# Altium integrated library NXP Semiconductors Cortex-M3.IntLib: 68 symbols (part 1 of 8)
Pins are listed as number, name and electrical type; pins without a type are passive.

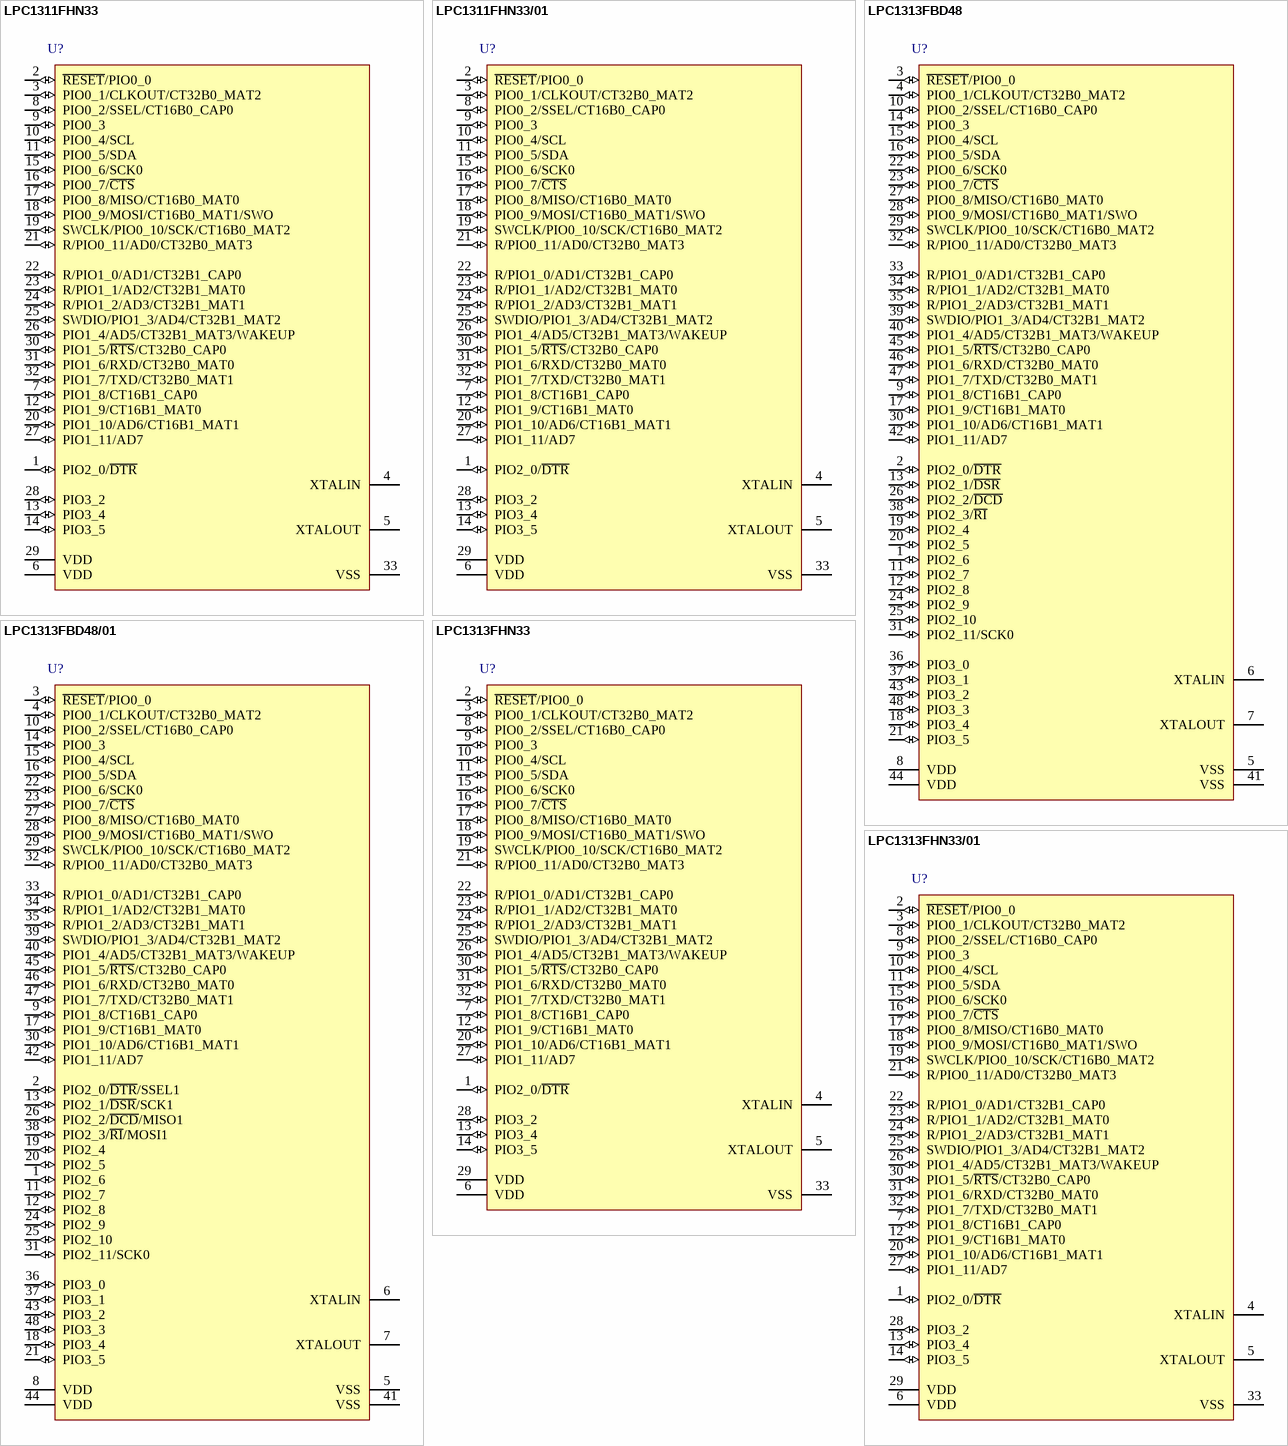
[diagram p0: symbols LPC1311FHN33 to LPC1313FHN33/01]

## LPC1311FHN33
designator U?
32-bit ARM Cortex-M3 MCU, 8 kB Flash, 4 kB SRAM, 72 MHz, 32-Pin HVQFN; fmax: 72 MHz; SRAM: 4 kB; Flash: 8 kB; GPIOs: 28; UART: 1; PLL: Y; ADC channels: 8; Timers: 4; VDD (min): 2 V; VDD (typ): 3.3 V; VDD (max): 3.6 V; DatasheetVersion: Rev. 4, Jun-2011; PackageVersion: Jun-2009; PackageReference: SOT865-3; PackageDescription: HVQFN32: Plastic Thermal Enhanced Very Thin Quad Flat Package; No Leads; 32 Terminals; Body 7 x 7 x 0.85 mm; I2C: 1; SPI: 1; SSP: 1; Code_JEDEC: MO-220; ComponentLink1Description: Manufacturer URL; ComponentLink1URL: http://www.nxp.com/; ComponentLink2Description: Datasheet; ComponentLink2URL: http://www.nxp.com/documents/data_sheet/LPC1311_13_42_43.pdf
footprint SOT865-3_V (QFN, 32-Leads, Body 7x7mm, Pitch 0.65mm, Thermal Pad 4.7x4.7mm, NXP Recommended)
footprint SOT865-3_N (QFN, 32-Leads, Body 7x7mm, Pitch 0.65mm, Thermal Pad 4.9x4.9mm, IPC Medium Density)
footprint SOT865-3_L (QFN, 32-Leads, Body 7x7mm, Pitch 0.65mm, Thermal Pad 4.9x4.9mm, IPC High Density)
footprint SOT865-3_M (QFN, 32-Leads, Body 7x7mm, Pitch 0.65mm, Thermal Pad 4.9x4.9mm, IPC Low Density)
pins: 1 PIO2_0/~{DTR} (io), 2 ~{RESET}/PIO0_0 (io), 3 PIO0_1/CLKOUT/CT32B0_MAT2 (io), 4 XTALIN, 5 XTALOUT, 6 VDD (power), 7 PIO1_8/CT16B1_CAP0 (io), 8 PIO0_2/SSEL/CT16B0_CAP0 (io), 9 PIO0_3 (io), 10 PIO0_4/SCL (io), 11 PIO0_5/SDA (io), 12 PIO1_9/CT16B1_MAT0 (io), 13 PIO3_4 (io), 14 PIO3_5 (io), 15 PIO0_6/SCK0 (io), 16 PIO0_7/~{CTS} (io), 17 PIO0_8/MISO/CT16B0_MAT0 (io), 18 PIO0_9/MOSI/CT16B0_MAT1/SWO (io), 19 SWCLK/PIO0_10/SCK/CT16B0_MAT2 (io), 20 PIO1_10/AD6/CT16B1_MAT1 (io), 21 R/PIO0_11/AD0/CT32B0_MAT3 (io), 22 R/PIO1_0/AD1/CT32B1_CAP0 (io), 23 R/PIO1_1/AD2/CT32B1_MAT0 (io), 24 R/PIO1_2/AD3/CT32B1_MAT1 (io), 25 SWDIO/PIO1_3/AD4/CT32B1_MAT2 (io), 26 PIO1_4/AD5/CT32B1_MAT3/WAKEUP (io), 27 PIO1_11/AD7 (io), 28 PIO3_2 (io), 29 VDD (power), 30 PIO1_5/~{RTS}/CT32B0_CAP0 (io), 31 PIO1_6/RXD/CT32B0_MAT0 (io), 32 PIO1_7/TXD/CT32B0_MAT1 (io), 33 VSS (power)

## LPC1311FHN33/01
designator U?
32-bit ARM Cortex-M3 MCU, 8 kB Flash, 4 kB SRAM, 72 MHz, Power profiles, 32-Pin HVQFN; fmax: 72 MHz; SRAM: 4 kB; Flash: 8 kB; GPIOs: 28; UART: 1; PLL: Y; ADC channels: 8; Timers: 4; VDD (min): 2 V; VDD (typ): 3.3 V; VDD (max): 3.6 V; DatasheetVersion: Rev. 4, Jun-2011; PackageVersion: Jun-2009; PackageReference: SOT865-3; PackageDescription: HVQFN32: Plastic Thermal Enhanced Very Thin Quad Flat Package; No Leads; 32 Terminals; Body 7 x 7 x 0.85 mm; I2C: 1; SPI: 1; SSP: 1; Code_JEDEC: MO-220; ComponentLink1Description: Manufacturer URL; ComponentLink1URL: http://www.nxp.com/; ComponentLink2Description: Datasheet; ComponentLink2URL: http://www.nxp.com/documents/data_sheet/LPC1311_13_42_43.pdf
footprint SOT865-3_V (QFN, 32-Leads, Body 7x7mm, Pitch 0.65mm, Thermal Pad 4.7x4.7mm, NXP Recommended)
footprint SOT865-3_N (QFN, 32-Leads, Body 7x7mm, Pitch 0.65mm, Thermal Pad 4.9x4.9mm, IPC Medium Density)
footprint SOT865-3_L (QFN, 32-Leads, Body 7x7mm, Pitch 0.65mm, Thermal Pad 4.9x4.9mm, IPC High Density)
footprint SOT865-3_M (QFN, 32-Leads, Body 7x7mm, Pitch 0.65mm, Thermal Pad 4.9x4.9mm, IPC Low Density)
pins: 1 PIO2_0/~{DTR} (io), 2 ~{RESET}/PIO0_0 (io), 3 PIO0_1/CLKOUT/CT32B0_MAT2 (io), 4 XTALIN, 5 XTALOUT, 6 VDD (power), 7 PIO1_8/CT16B1_CAP0 (io), 8 PIO0_2/SSEL/CT16B0_CAP0 (io), 9 PIO0_3 (io), 10 PIO0_4/SCL (io), 11 PIO0_5/SDA (io), 12 PIO1_9/CT16B1_MAT0 (io), 13 PIO3_4 (io), 14 PIO3_5 (io), 15 PIO0_6/SCK0 (io), 16 PIO0_7/~{CTS} (io), 17 PIO0_8/MISO/CT16B0_MAT0 (io), 18 PIO0_9/MOSI/CT16B0_MAT1/SWO (io), 19 SWCLK/PIO0_10/SCK/CT16B0_MAT2 (io), 20 PIO1_10/AD6/CT16B1_MAT1 (io), 21 R/PIO0_11/AD0/CT32B0_MAT3 (io), 22 R/PIO1_0/AD1/CT32B1_CAP0 (io), 23 R/PIO1_1/AD2/CT32B1_MAT0 (io), 24 R/PIO1_2/AD3/CT32B1_MAT1 (io), 25 SWDIO/PIO1_3/AD4/CT32B1_MAT2 (io), 26 PIO1_4/AD5/CT32B1_MAT3/WAKEUP (io), 27 PIO1_11/AD7 (io), 28 PIO3_2 (io), 29 VDD (power), 30 PIO1_5/~{RTS}/CT32B0_CAP0 (io), 31 PIO1_6/RXD/CT32B0_MAT0 (io), 32 PIO1_7/TXD/CT32B0_MAT1 (io), 33 VSS (power)

## LPC1313FBD48
designator U?
32-bit ARM Cortex-M3 MCU, 32 kB Flash, 8 kB SRAM, 72 MHz, 48-Pin LQFP; fmax: 72 MHz; SRAM: 8 kB; Flash: 32 kB; GPIOs: 42; UART: 1; PLL: Y; ADC channels: 8; Timers: 4; VDD (min): 2 V; VDD (typ): 3.3 V; VDD (max): 3.6 V; Code_IEC: 136E05; DatasheetVersion: Rev. 4, Jun-2011; PackageVersion: Feb-2003; PackageReference: SOT313-2; PackageDescription: LQFP48: Plastic Low Profile Quad Flat Package; 48 Leads; Body 7 x 7 x 1.4 mm; I2C: 1; SPI: 1; SSP: 1; Code_JEDEC: MS-026; ComponentLink1Description: Manufacturer URL; ComponentLink1URL: http://www.nxp.com/; ComponentLink2Description: Datasheet; ComponentLink2URL: http://www.nxp.com/documents/data_sheet/LPC1311_13_42_43.pdf
footprint SOT313-2_V (Thin QFP, 48-Leads, Body 7x7mm, Pitch 0.5mm, NXP Recommended)
footprint SOT313-2_N (Thin QFP, 48-Leads, Body 7x7mm, Pitch 0.5mm, IPC Medium Density)
footprint SOT313-2_L (Thin QFP, 48-Leads, Body 7x7mm, Pitch 0.5mm, IPC High Density)
footprint SOT313-2_M (Thin QFP, 48-Leads, Body 7x7mm, Pitch 0.5mm, IPC Low Density)
pins: 1 PIO2_6 (io), 2 PIO2_0/~{DTR} (io), 3 ~{RESET}/PIO0_0 (io), 4 PIO0_1/CLKOUT/CT32B0_MAT2 (io), 5 VSS (power), 6 XTALIN, 7 XTALOUT, 8 VDD (power), 9 PIO1_8/CT16B1_CAP0 (io), 10 PIO0_2/SSEL/CT16B0_CAP0 (io), 11 PIO2_7 (io), 12 PIO2_8 (io), 13 PIO2_1/~{DSR} (io), 14 PIO0_3 (io), 15 PIO0_4/SCL (io), 16 PIO0_5/SDA (io), 17 PIO1_9/CT16B1_MAT0 (io), 18 PIO3_4 (io), 19 PIO2_4 (io), 20 PIO2_5 (io), 21 PIO3_5 (io), 22 PIO0_6/SCK0 (io), 23 PIO0_7/~{CTS} (io), 24 PIO2_9 (io), 25 PIO2_10 (io), 26 PIO2_2/~{DCD} (io), 27 PIO0_8/MISO/CT16B0_MAT0 (io), 28 PIO0_9/MOSI/CT16B0_MAT1/SWO (io), 29 SWCLK/PIO0_10/SCK/CT16B0_MAT2 (io), 30 PIO1_10/AD6/CT16B1_MAT1 (io), 31 PIO2_11/SCK0 (io), 32 R/PIO0_11/AD0/CT32B0_MAT3 (io), 33 R/PIO1_0/AD1/CT32B1_CAP0 (io), 34 R/PIO1_1/AD2/CT32B1_MAT0 (io), 35 R/PIO1_2/AD3/CT32B1_MAT1 (io), 36 PIO3_0 (io), 37 PIO3_1 (io), 38 PIO2_3/~{RI} (io), 39 SWDIO/PIO1_3/AD4/CT32B1_MAT2 (io), 40 PIO1_4/AD5/CT32B1_MAT3/WAKEUP (io), 41 VSS (power), 42 PIO1_11/AD7 (io), 43 PIO3_2 (io), 44 VDD (power), 45 PIO1_5/~{RTS}/CT32B0_CAP0 (io), 46 PIO1_6/RXD/CT32B0_MAT0 (io), 47 PIO1_7/TXD/CT32B0_MAT1 (io), 48 PIO3_3 (io)

## LPC1313FBD48/01
designator U?
32-bit ARM Cortex-M3 MCU, 32 kB Flash, 8 kB SRAM, 72 MHz, Power profiles, 48-Pin LQFP; fmax: 72 MHz; SRAM: 8 kB; Flash: 32 kB; GPIOs: 42; UART: 1; SSP: 2; PLL: Y; ADC channels: 8; Timers: 4; VDD (min): 2 V; VDD (typ): 3.3 V; VDD (max): 3.6 V; Code_IEC: 136E05; DatasheetVersion: Rev. 4, Jun-2011; PackageVersion: Feb-2003; PackageReference: SOT313-2; PackageDescription: LQFP48: Plastic Low Profile Quad Flat Package; 48 Leads; Body 7 x 7 x 1.4 mm; I2C: 1; SPI: 1; Code_JEDEC: MS-026; ComponentLink1Description: Manufacturer URL; ComponentLink1URL: http://www.nxp.com/; ComponentLink2Description: Datasheet; ComponentLink2URL: http://www.nxp.com/documents/data_sheet/LPC1311_13_42_43.pdf
footprint SOT313-2_V (Thin QFP, 48-Leads, Body 7x7mm, Pitch 0.5mm, NXP Recommended)
footprint SOT313-2_N (Thin QFP, 48-Leads, Body 7x7mm, Pitch 0.5mm, IPC Medium Density)
footprint SOT313-2_L (Thin QFP, 48-Leads, Body 7x7mm, Pitch 0.5mm, IPC High Density)
footprint SOT313-2_M (Thin QFP, 48-Leads, Body 7x7mm, Pitch 0.5mm, IPC Low Density)
pins: 1 PIO2_6 (io), 2 PIO2_0/~{DTR}/SSEL1 (io), 3 ~{RESET}/PIO0_0 (io), 4 PIO0_1/CLKOUT/CT32B0_MAT2 (io), 5 VSS (power), 6 XTALIN, 7 XTALOUT, 8 VDD (power), 9 PIO1_8/CT16B1_CAP0 (io), 10 PIO0_2/SSEL/CT16B0_CAP0 (io), 11 PIO2_7 (io), 12 PIO2_8 (io), 13 PIO2_1/~{DSR}/SCK1 (io), 14 PIO0_3 (io), 15 PIO0_4/SCL (io), 16 PIO0_5/SDA (io), 17 PIO1_9/CT16B1_MAT0 (io), 18 PIO3_4 (io), 19 PIO2_4 (io), 20 PIO2_5 (io), 21 PIO3_5 (io), 22 PIO0_6/SCK0 (io), 23 PIO0_7/~{CTS} (io), 24 PIO2_9 (io), 25 PIO2_10 (io), 26 PIO2_2/~{DCD}/MISO1 (io), 27 PIO0_8/MISO/CT16B0_MAT0 (io), 28 PIO0_9/MOSI/CT16B0_MAT1/SWO (io), 29 SWCLK/PIO0_10/SCK/CT16B0_MAT2 (io), 30 PIO1_10/AD6/CT16B1_MAT1 (io), 31 PIO2_11/SCK0 (io), 32 R/PIO0_11/AD0/CT32B0_MAT3 (io), 33 R/PIO1_0/AD1/CT32B1_CAP0 (io), 34 R/PIO1_1/AD2/CT32B1_MAT0 (io), 35 R/PIO1_2/AD3/CT32B1_MAT1 (io), 36 PIO3_0 (io), 37 PIO3_1 (io), 38 PIO2_3/~{RI}/MOSI1 (io), 39 SWDIO/PIO1_3/AD4/CT32B1_MAT2 (io), 40 PIO1_4/AD5/CT32B1_MAT3/WAKEUP (io), 41 VSS (power), 42 PIO1_11/AD7 (io), 43 PIO3_2 (io), 44 VDD (power), 45 PIO1_5/~{RTS}/CT32B0_CAP0 (io), 46 PIO1_6/RXD/CT32B0_MAT0 (io), 47 PIO1_7/TXD/CT32B0_MAT1 (io), 48 PIO3_3 (io)

## LPC1313FHN33
designator U?
32-bit ARM Cortex-M3 MCU, 32 kB Flash, 8 kB SRAM, 72 MHz, 32-Pin HVQFN; fmax: 72 MHz; SRAM: 8 kB; Flash: 32 kB; GPIOs: 28; UART: 1; PLL: Y; ADC channels: 8; Timers: 4; VDD (min): 2 V; VDD (typ): 3.3 V; VDD (max): 3.6 V; DatasheetVersion: Rev. 4, Jun-2011; PackageVersion: Jun-2009; PackageReference: SOT865-3; PackageDescription: HVQFN32: Plastic Thermal Enhanced Very Thin Quad Flat Package; No Leads; 32 Terminals; Body 7 x 7 x 0.85 mm; I2C: 1; SPI: 1; SSP: 1; Code_JEDEC: MO-220; ComponentLink1Description: Manufacturer URL; ComponentLink1URL: http://www.nxp.com/; ComponentLink2Description: Datasheet; ComponentLink2URL: http://www.nxp.com/documents/data_sheet/LPC1311_13_42_43.pdf
footprint SOT865-3_V (QFN, 32-Leads, Body 7x7mm, Pitch 0.65mm, Thermal Pad 4.7x4.7mm, NXP Recommended)
footprint SOT865-3_N (QFN, 32-Leads, Body 7x7mm, Pitch 0.65mm, Thermal Pad 4.9x4.9mm, IPC Medium Density)
footprint SOT865-3_L (QFN, 32-Leads, Body 7x7mm, Pitch 0.65mm, Thermal Pad 4.9x4.9mm, IPC High Density)
footprint SOT865-3_M (QFN, 32-Leads, Body 7x7mm, Pitch 0.65mm, Thermal Pad 4.9x4.9mm, IPC Low Density)
pins: 1 PIO2_0/~{DTR} (io), 2 ~{RESET}/PIO0_0 (io), 3 PIO0_1/CLKOUT/CT32B0_MAT2 (io), 4 XTALIN, 5 XTALOUT, 6 VDD (power), 7 PIO1_8/CT16B1_CAP0 (io), 8 PIO0_2/SSEL/CT16B0_CAP0 (io), 9 PIO0_3 (io), 10 PIO0_4/SCL (io), 11 PIO0_5/SDA (io), 12 PIO1_9/CT16B1_MAT0 (io), 13 PIO3_4 (io), 14 PIO3_5 (io), 15 PIO0_6/SCK0 (io), 16 PIO0_7/~{CTS} (io), 17 PIO0_8/MISO/CT16B0_MAT0 (io), 18 PIO0_9/MOSI/CT16B0_MAT1/SWO (io), 19 SWCLK/PIO0_10/SCK/CT16B0_MAT2 (io), 20 PIO1_10/AD6/CT16B1_MAT1 (io), 21 R/PIO0_11/AD0/CT32B0_MAT3 (io), 22 R/PIO1_0/AD1/CT32B1_CAP0 (io), 23 R/PIO1_1/AD2/CT32B1_MAT0 (io), 24 R/PIO1_2/AD3/CT32B1_MAT1 (io), 25 SWDIO/PIO1_3/AD4/CT32B1_MAT2 (io), 26 PIO1_4/AD5/CT32B1_MAT3/WAKEUP (io), 27 PIO1_11/AD7 (io), 28 PIO3_2 (io), 29 VDD (power), 30 PIO1_5/~{RTS}/CT32B0_CAP0 (io), 31 PIO1_6/RXD/CT32B0_MAT0 (io), 32 PIO1_7/TXD/CT32B0_MAT1 (io), 33 VSS (power)

## LPC1313FHN33/01
designator U?
32-bit ARM Cortex-M3 MCU, 32 kB Flash, 8 kB SRAM, 72 MHz, 32-Pin HVQFN; fmax: 72 MHz; SRAM: 8 kB; Flash: 32 kB; GPIOs: 28; UART: 1; PLL: Y; ADC channels: 8; Timers: 4; VDD (min): 2 V; VDD (typ): 3.3 V; VDD (max): 3.6 V; DatasheetVersion: Rev. 4, Jun-2011; PackageVersion: Jun-2009; PackageReference: SOT865-3; PackageDescription: HVQFN32: Plastic Thermal Enhanced Very Thin Quad Flat Package; No Leads; 32 Terminals; Body 7 x 7 x 0.85 mm; I2C: 1; SPI: 1; SSP: 1; Code_JEDEC: MO-220; ComponentLink1Description: Manufacturer URL; ComponentLink1URL: http://www.nxp.com/; ComponentLink2Description: Datasheet; ComponentLink2URL: http://www.nxp.com/documents/data_sheet/LPC1311_13_42_43.pdf
footprint SOT865-3_V (QFN, 32-Leads, Body 7x7mm, Pitch 0.65mm, Thermal Pad 4.7x4.7mm, NXP Recommended)
footprint SOT865-3_N (QFN, 32-Leads, Body 7x7mm, Pitch 0.65mm, Thermal Pad 4.9x4.9mm, IPC Medium Density)
footprint SOT865-3_L (QFN, 32-Leads, Body 7x7mm, Pitch 0.65mm, Thermal Pad 4.9x4.9mm, IPC High Density)
footprint SOT865-3_M (QFN, 32-Leads, Body 7x7mm, Pitch 0.65mm, Thermal Pad 4.9x4.9mm, IPC Low Density)
pins: 1 PIO2_0/~{DTR} (io), 2 ~{RESET}/PIO0_0 (io), 3 PIO0_1/CLKOUT/CT32B0_MAT2 (io), 4 XTALIN, 5 XTALOUT, 6 VDD (power), 7 PIO1_8/CT16B1_CAP0 (io), 8 PIO0_2/SSEL/CT16B0_CAP0 (io), 9 PIO0_3 (io), 10 PIO0_4/SCL (io), 11 PIO0_5/SDA (io), 12 PIO1_9/CT16B1_MAT0 (io), 13 PIO3_4 (io), 14 PIO3_5 (io), 15 PIO0_6/SCK0 (io), 16 PIO0_7/~{CTS} (io), 17 PIO0_8/MISO/CT16B0_MAT0 (io), 18 PIO0_9/MOSI/CT16B0_MAT1/SWO (io), 19 SWCLK/PIO0_10/SCK/CT16B0_MAT2 (io), 20 PIO1_10/AD6/CT16B1_MAT1 (io), 21 R/PIO0_11/AD0/CT32B0_MAT3 (io), 22 R/PIO1_0/AD1/CT32B1_CAP0 (io), 23 R/PIO1_1/AD2/CT32B1_MAT0 (io), 24 R/PIO1_2/AD3/CT32B1_MAT1 (io), 25 SWDIO/PIO1_3/AD4/CT32B1_MAT2 (io), 26 PIO1_4/AD5/CT32B1_MAT3/WAKEUP (io), 27 PIO1_11/AD7 (io), 28 PIO3_2 (io), 29 VDD (power), 30 PIO1_5/~{RTS}/CT32B0_CAP0 (io), 31 PIO1_6/RXD/CT32B0_MAT0 (io), 32 PIO1_7/TXD/CT32B0_MAT1 (io), 33 VSS (power)

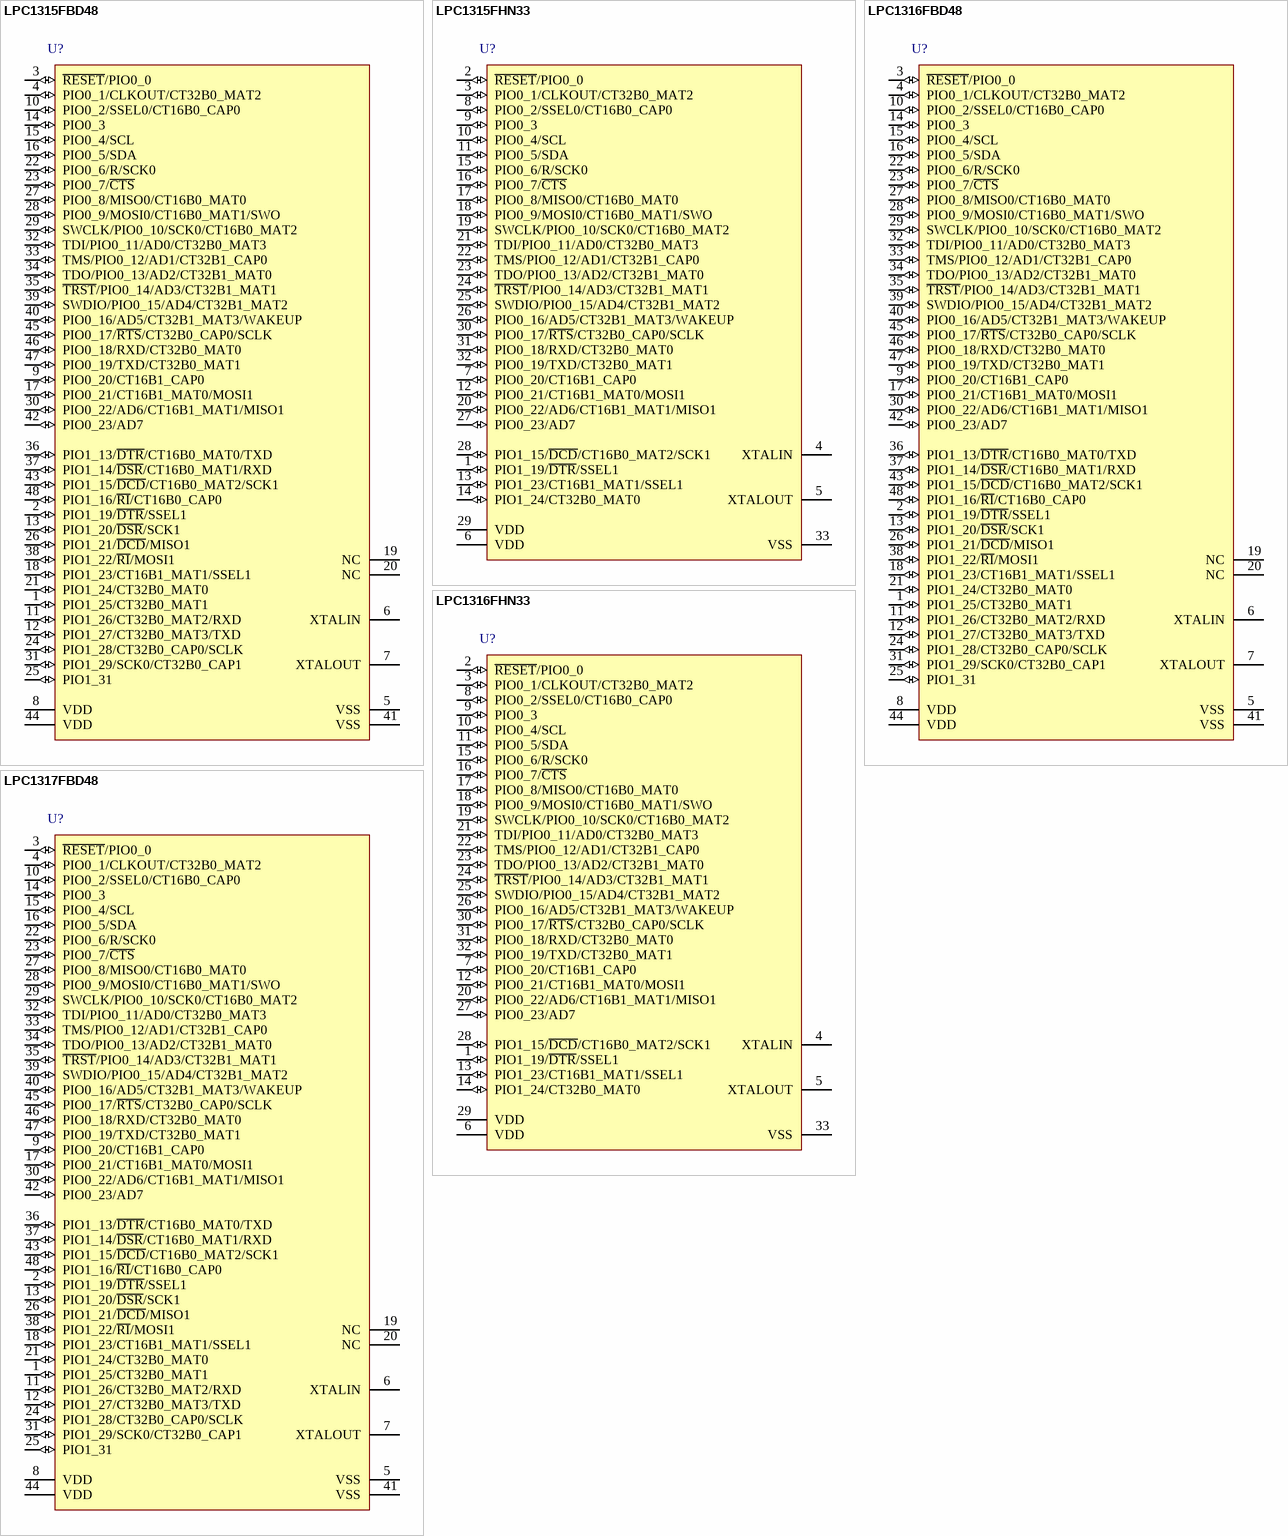
[diagram p1: symbols LPC1315FBD48 to LPC1317FBD48]

## LPC1315FBD48
designator U?
32-bit ARM Cortex-M3 MCU, 32 kB Flash, 8 kB SRAM, USART, EEPROM, 48-Pin LQFP; fmax: 72 MHz; SRAM: 8 kB; Flash: 32 kB; EEPROM: 2 kB; GPIOs: 40; UART: 1; SSP: 2; PLL: Y; ADC channels: 8; Timers: 4; VDD (min): 2 V; VDD (typ): 3.3 V; VDD (max): 3.6 V; Code_IEC: 136E05; DatasheetVersion: Rev. 1, Mar-2012; PackageVersion: Feb-2003; PackageReference: SOT313-2; PackageDescription: LQFP48: Plastic Low Profile Quad Flat Package; 48 Leads; Body 7 x 7 x 1.4 mm; I2C: 1; Code_JEDEC: MS-026; ComponentLink1Description: Manufacturer URL; ComponentLink1URL: http://www.nxp.com/; ComponentLink2Description: Datasheet; ComponentLink2URL: http://www.nxp.com/documents/data_sheet/LPC1315_16_17_45_46_47.pdf
footprint SOT313-2_V (Thin QFP, 48-Leads, Body 7x7mm, Pitch 0.5mm, NXP Recommended)
footprint SOT313-2_N (Thin QFP, 48-Leads, Body 7x7mm, Pitch 0.5mm, IPC Medium Density)
footprint SOT313-2_L (Thin QFP, 48-Leads, Body 7x7mm, Pitch 0.5mm, IPC High Density)
footprint SOT313-2_M (Thin QFP, 48-Leads, Body 7x7mm, Pitch 0.5mm, IPC Low Density)
pins: 1 PIO1_25/CT32B0_MAT1 (io), 2 PIO1_19/~{DTR}/SSEL1 (io), 3 ~{RESET}/PIO0_0 (io), 4 PIO0_1/CLKOUT/CT32B0_MAT2 (io), 5 VSS (power), 6 XTALIN, 7 XTALOUT, 8 VDD (power), 9 PIO0_20/CT16B1_CAP0 (io), 10 PIO0_2/SSEL0/CT16B0_CAP0 (io), 11 PIO1_26/CT32B0_MAT2/RXD (io), 12 PIO1_27/CT32B0_MAT3/TXD (io), 13 PIO1_20/~{DSR}/SCK1 (io), 14 PIO0_3 (io), 15 PIO0_4/SCL (io), 16 PIO0_5/SDA (io), 17 PIO0_21/CT16B1_MAT0/MOSI1 (io), 18 PIO1_23/CT16B1_MAT1/SSEL1 (io), 19 NC, 20 NC, 21 PIO1_24/CT32B0_MAT0 (io), 22 PIO0_6/R/SCK0 (io), 23 PIO0_7/~{CTS} (io), 24 PIO1_28/CT32B0_CAP0/SCLK (io), 25 PIO1_31 (io), 26 PIO1_21/~{DCD}/MISO1 (io), 27 PIO0_8/MISO0/CT16B0_MAT0 (io), 28 PIO0_9/MOSI0/CT16B0_MAT1/SWO (io), 29 SWCLK/PIO0_10/SCK0/CT16B0_MAT2 (io), 30 PIO0_22/AD6/CT16B1_MAT1/MISO1 (io), 31 PIO1_29/SCK0/CT32B0_CAP1 (io), 32 TDI/PIO0_11/AD0/CT32B0_MAT3 (io), 33 TMS/PIO0_12/AD1/CT32B1_CAP0 (io), 34 TDO/PIO0_13/AD2/CT32B1_MAT0 (io), 35 ~{TRST}/PIO0_14/AD3/CT32B1_MAT1 (io), 36 PIO1_13/~{DTR}/CT16B0_MAT0/TXD (io), 37 PIO1_14/~{DSR}/CT16B0_MAT1/RXD (io), 38 PIO1_22/~{RI}/MOSI1 (io), 39 SWDIO/PIO0_15/AD4/CT32B1_MAT2 (io), 40 PIO0_16/AD5/CT32B1_MAT3/WAKEUP (io), 41 VSS (power), 42 PIO0_23/AD7 (io), 43 PIO1_15/~{DCD}/CT16B0_MAT2/SCK1 (io), 44 VDD (power), 45 PIO0_17/~{RTS}/CT32B0_CAP0/SCLK (io), 46 PIO0_18/RXD/CT32B0_MAT0 (io), 47 PIO0_19/TXD/CT32B0_MAT1 (io), 48 PIO1_16/~{RI}/CT16B0_CAP0 (io)

## LPC1315FHN33
designator U?
32-bit ARM Cortex-M3 MCU, 32 kB Flash, 8 kB SRAM, USART, EEPROM, 32-Pin HVQFN; fmax: 72 MHz; SRAM: 8 kB; Flash: 32 kB; EEPROM: 2 kB; GPIOs: 28; UART: 1; SSP: 2; PLL: Y; ADC channels: 8; Timers: 4; VDD (min): 2 V; VDD (typ): 3.3 V; VDD (max): 3.6 V; DatasheetVersion: Rev. 1, Mar-2012; PackageVersion: Jun-2009; PackageReference: SOT865-3; PackageDescription: HVQFN32: Plastic Thermal Enhanced Very Thin Quad Flat Package; No Leads; 32 Terminals; Body 7 x 7 x 0.85 mm; I2C: 1; Code_JEDEC: MO-220; ComponentLink1Description: Manufacturer URL; ComponentLink1URL: http://www.nxp.com/; ComponentLink2Description: Datasheet; ComponentLink2URL: http://www.nxp.com/documents/data_sheet/LPC1315_16_17_45_46_47.pdf
footprint SOT865-3_V (QFN, 32-Leads, Body 7x7mm, Pitch 0.65mm, Thermal Pad 4.7x4.7mm, NXP Recommended)
footprint SOT865-3_N (QFN, 32-Leads, Body 7x7mm, Pitch 0.65mm, Thermal Pad 4.9x4.9mm, IPC Medium Density)
footprint SOT865-3_L (QFN, 32-Leads, Body 7x7mm, Pitch 0.65mm, Thermal Pad 4.9x4.9mm, IPC High Density)
footprint SOT865-3_M (QFN, 32-Leads, Body 7x7mm, Pitch 0.65mm, Thermal Pad 4.9x4.9mm, IPC Low Density)
pins: 1 PIO1_19/~{DTR}/SSEL1 (io), 2 ~{RESET}/PIO0_0 (io), 3 PIO0_1/CLKOUT/CT32B0_MAT2 (io), 4 XTALIN, 5 XTALOUT, 6 VDD (power), 7 PIO0_20/CT16B1_CAP0 (io), 8 PIO0_2/SSEL0/CT16B0_CAP0 (io), 9 PIO0_3 (io), 10 PIO0_4/SCL (io), 11 PIO0_5/SDA (io), 12 PIO0_21/CT16B1_MAT0/MOSI1 (io), 13 PIO1_23/CT16B1_MAT1/SSEL1 (io), 14 PIO1_24/CT32B0_MAT0 (io), 15 PIO0_6/R/SCK0 (io), 16 PIO0_7/~{CTS} (io), 17 PIO0_8/MISO0/CT16B0_MAT0 (io), 18 PIO0_9/MOSI0/CT16B0_MAT1/SWO (io), 19 SWCLK/PIO0_10/SCK0/CT16B0_MAT2 (io), 20 PIO0_22/AD6/CT16B1_MAT1/MISO1 (io), 21 TDI/PIO0_11/AD0/CT32B0_MAT3 (io), 22 TMS/PIO0_12/AD1/CT32B1_CAP0 (io), 23 TDO/PIO0_13/AD2/CT32B1_MAT0 (io), 24 ~{TRST}/PIO0_14/AD3/CT32B1_MAT1 (io), 25 SWDIO/PIO0_15/AD4/CT32B1_MAT2 (io), 26 PIO0_16/AD5/CT32B1_MAT3/WAKEUP (io), 27 PIO0_23/AD7 (io), 28 PIO1_15/~{DCD}/CT16B0_MAT2/SCK1 (io), 29 VDD (power), 30 PIO0_17/~{RTS}/CT32B0_CAP0/SCLK (io), 31 PIO0_18/RXD/CT32B0_MAT0 (io), 32 PIO0_19/TXD/CT32B0_MAT1 (io), 33 VSS (power)

## LPC1316FBD48
designator U?
32-bit ARM Cortex-M3 MCU, 48 kB Flash, 8 kB SRAM, USART, EEPROM, 48-Pin LQFP; fmax: 72 MHz; SRAM: 8 kB; Flash: 48 kB; EEPROM: 4 kB; GPIOs: 40; UART: 1; SSP: 2; PLL: Y; ADC channels: 8; Timers: 4; VDD (min): 2 V; VDD (typ): 3.3 V; VDD (max): 3.6 V; Code_IEC: 136E05; DatasheetVersion: Rev. 1, Mar-2012; PackageVersion: Feb-2003; PackageReference: SOT313-2; PackageDescription: LQFP48: Plastic Low Profile Quad Flat Package; 48 Leads; Body 7 x 7 x 1.4 mm; I2C: 1; Code_JEDEC: MS-026; ComponentLink1Description: Manufacturer URL; ComponentLink1URL: http://www.nxp.com/; ComponentLink2Description: Datasheet; ComponentLink2URL: http://www.nxp.com/documents/data_sheet/LPC1315_16_17_45_46_47.pdf
footprint SOT313-2_V (Thin QFP, 48-Leads, Body 7x7mm, Pitch 0.5mm, NXP Recommended)
footprint SOT313-2_N (Thin QFP, 48-Leads, Body 7x7mm, Pitch 0.5mm, IPC Medium Density)
footprint SOT313-2_L (Thin QFP, 48-Leads, Body 7x7mm, Pitch 0.5mm, IPC High Density)
footprint SOT313-2_M (Thin QFP, 48-Leads, Body 7x7mm, Pitch 0.5mm, IPC Low Density)
pins: 1 PIO1_25/CT32B0_MAT1 (io), 2 PIO1_19/~{DTR}/SSEL1 (io), 3 ~{RESET}/PIO0_0 (io), 4 PIO0_1/CLKOUT/CT32B0_MAT2 (io), 5 VSS (power), 6 XTALIN, 7 XTALOUT, 8 VDD (power), 9 PIO0_20/CT16B1_CAP0 (io), 10 PIO0_2/SSEL0/CT16B0_CAP0 (io), 11 PIO1_26/CT32B0_MAT2/RXD (io), 12 PIO1_27/CT32B0_MAT3/TXD (io), 13 PIO1_20/~{DSR}/SCK1 (io), 14 PIO0_3 (io), 15 PIO0_4/SCL (io), 16 PIO0_5/SDA (io), 17 PIO0_21/CT16B1_MAT0/MOSI1 (io), 18 PIO1_23/CT16B1_MAT1/SSEL1 (io), 19 NC, 20 NC, 21 PIO1_24/CT32B0_MAT0 (io), 22 PIO0_6/R/SCK0 (io), 23 PIO0_7/~{CTS} (io), 24 PIO1_28/CT32B0_CAP0/SCLK (io), 25 PIO1_31 (io), 26 PIO1_21/~{DCD}/MISO1 (io), 27 PIO0_8/MISO0/CT16B0_MAT0 (io), 28 PIO0_9/MOSI0/CT16B0_MAT1/SWO (io), 29 SWCLK/PIO0_10/SCK0/CT16B0_MAT2 (io), 30 PIO0_22/AD6/CT16B1_MAT1/MISO1 (io), 31 PIO1_29/SCK0/CT32B0_CAP1 (io), 32 TDI/PIO0_11/AD0/CT32B0_MAT3 (io), 33 TMS/PIO0_12/AD1/CT32B1_CAP0 (io), 34 TDO/PIO0_13/AD2/CT32B1_MAT0 (io), 35 ~{TRST}/PIO0_14/AD3/CT32B1_MAT1 (io), 36 PIO1_13/~{DTR}/CT16B0_MAT0/TXD (io), 37 PIO1_14/~{DSR}/CT16B0_MAT1/RXD (io), 38 PIO1_22/~{RI}/MOSI1 (io), 39 SWDIO/PIO0_15/AD4/CT32B1_MAT2 (io), 40 PIO0_16/AD5/CT32B1_MAT3/WAKEUP (io), 41 VSS (power), 42 PIO0_23/AD7 (io), 43 PIO1_15/~{DCD}/CT16B0_MAT2/SCK1 (io), 44 VDD (power), 45 PIO0_17/~{RTS}/CT32B0_CAP0/SCLK (io), 46 PIO0_18/RXD/CT32B0_MAT0 (io), 47 PIO0_19/TXD/CT32B0_MAT1 (io), 48 PIO1_16/~{RI}/CT16B0_CAP0 (io)

## LPC1316FHN33
designator U?
32-bit ARM Cortex-M3 MCU, 48 kB Flash, 8 kB SRAM, USART, EEPROM, 32-Pin HVQFN; fmax: 72 MHz; SRAM: 8 kB; Flash: 48 kB; EEPROM: 4 kB; GPIOs: 28; UART: 1; SSP: 2; PLL: Y; ADC channels: 8; Timers: 4; VDD (min): 2 V; VDD (typ): 3.3 V; VDD (max): 3.6 V; DatasheetVersion: Rev. 1, Mar-2012; PackageVersion: Jun-2009; PackageReference: SOT865-3; PackageDescription: HVQFN32: Plastic Thermal Enhanced Very Thin Quad Flat Package; No Leads; 32 Terminals; Body 7 x 7 x 0.85 mm; I2C: 1; Code_JEDEC: MO-220; ComponentLink1Description: Manufacturer URL; ComponentLink1URL: http://www.nxp.com/; ComponentLink2Description: Datasheet; ComponentLink2URL: http://www.nxp.com/documents/data_sheet/LPC1315_16_17_45_46_47.pdf
footprint SOT865-3_V (QFN, 32-Leads, Body 7x7mm, Pitch 0.65mm, Thermal Pad 4.7x4.7mm, NXP Recommended)
footprint SOT865-3_N (QFN, 32-Leads, Body 7x7mm, Pitch 0.65mm, Thermal Pad 4.9x4.9mm, IPC Medium Density)
footprint SOT865-3_L (QFN, 32-Leads, Body 7x7mm, Pitch 0.65mm, Thermal Pad 4.9x4.9mm, IPC High Density)
footprint SOT865-3_M (QFN, 32-Leads, Body 7x7mm, Pitch 0.65mm, Thermal Pad 4.9x4.9mm, IPC Low Density)
pins: 1 PIO1_19/~{DTR}/SSEL1 (io), 2 ~{RESET}/PIO0_0 (io), 3 PIO0_1/CLKOUT/CT32B0_MAT2 (io), 4 XTALIN, 5 XTALOUT, 6 VDD (power), 7 PIO0_20/CT16B1_CAP0 (io), 8 PIO0_2/SSEL0/CT16B0_CAP0 (io), 9 PIO0_3 (io), 10 PIO0_4/SCL (io), 11 PIO0_5/SDA (io), 12 PIO0_21/CT16B1_MAT0/MOSI1 (io), 13 PIO1_23/CT16B1_MAT1/SSEL1 (io), 14 PIO1_24/CT32B0_MAT0 (io), 15 PIO0_6/R/SCK0 (io), 16 PIO0_7/~{CTS} (io), 17 PIO0_8/MISO0/CT16B0_MAT0 (io), 18 PIO0_9/MOSI0/CT16B0_MAT1/SWO (io), 19 SWCLK/PIO0_10/SCK0/CT16B0_MAT2 (io), 20 PIO0_22/AD6/CT16B1_MAT1/MISO1 (io), 21 TDI/PIO0_11/AD0/CT32B0_MAT3 (io), 22 TMS/PIO0_12/AD1/CT32B1_CAP0 (io), 23 TDO/PIO0_13/AD2/CT32B1_MAT0 (io), 24 ~{TRST}/PIO0_14/AD3/CT32B1_MAT1 (io), 25 SWDIO/PIO0_15/AD4/CT32B1_MAT2 (io), 26 PIO0_16/AD5/CT32B1_MAT3/WAKEUP (io), 27 PIO0_23/AD7 (io), 28 PIO1_15/~{DCD}/CT16B0_MAT2/SCK1 (io), 29 VDD (power), 30 PIO0_17/~{RTS}/CT32B0_CAP0/SCLK (io), 31 PIO0_18/RXD/CT32B0_MAT0 (io), 32 PIO0_19/TXD/CT32B0_MAT1 (io), 33 VSS (power)

## LPC1317FBD48
designator U?
32-bit ARM Cortex-M3 MCU, 64 kB Flash, 10 kB SRAM, USART, EEPROM, 48-Pin LQFP; fmax: 72 MHz; SRAM: 10 kB; Flash: 64 kB; EEPROM: 4 kB; GPIOs: 40; UART: 1; SSP: 2; PLL: Y; ADC channels: 8; Timers: 4; VDD (min): 2 V; VDD (typ): 3.3 V; VDD (max): 3.6 V; Code_IEC: 136E05; DatasheetVersion: Rev. 1, Mar-2012; PackageVersion: Feb-2003; PackageReference: SOT313-2; PackageDescription: LQFP48: Plastic Low Profile Quad Flat Package; 48 Leads; Body 7 x 7 x 1.4 mm; I2C: 1; Code_JEDEC: MS-026; ComponentLink1Description: Manufacturer URL; ComponentLink1URL: http://www.nxp.com/; ComponentLink2Description: Datasheet; ComponentLink2URL: http://www.nxp.com/documents/data_sheet/LPC1315_16_17_45_46_47.pdf
footprint SOT313-2_V (Thin QFP, 48-Leads, Body 7x7mm, Pitch 0.5mm, NXP Recommended)
footprint SOT313-2_N (Thin QFP, 48-Leads, Body 7x7mm, Pitch 0.5mm, IPC Medium Density)
footprint SOT313-2_L (Thin QFP, 48-Leads, Body 7x7mm, Pitch 0.5mm, IPC High Density)
footprint SOT313-2_M (Thin QFP, 48-Leads, Body 7x7mm, Pitch 0.5mm, IPC Low Density)
pins: 1 PIO1_25/CT32B0_MAT1 (io), 2 PIO1_19/~{DTR}/SSEL1 (io), 3 ~{RESET}/PIO0_0 (io), 4 PIO0_1/CLKOUT/CT32B0_MAT2 (io), 5 VSS (power), 6 XTALIN, 7 XTALOUT, 8 VDD (power), 9 PIO0_20/CT16B1_CAP0 (io), 10 PIO0_2/SSEL0/CT16B0_CAP0 (io), 11 PIO1_26/CT32B0_MAT2/RXD (io), 12 PIO1_27/CT32B0_MAT3/TXD (io), 13 PIO1_20/~{DSR}/SCK1 (io), 14 PIO0_3 (io), 15 PIO0_4/SCL (io), 16 PIO0_5/SDA (io), 17 PIO0_21/CT16B1_MAT0/MOSI1 (io), 18 PIO1_23/CT16B1_MAT1/SSEL1 (io), 19 NC, 20 NC, 21 PIO1_24/CT32B0_MAT0 (io), 22 PIO0_6/R/SCK0 (io), 23 PIO0_7/~{CTS} (io), 24 PIO1_28/CT32B0_CAP0/SCLK (io), 25 PIO1_31 (io), 26 PIO1_21/~{DCD}/MISO1 (io), 27 PIO0_8/MISO0/CT16B0_MAT0 (io), 28 PIO0_9/MOSI0/CT16B0_MAT1/SWO (io), 29 SWCLK/PIO0_10/SCK0/CT16B0_MAT2 (io), 30 PIO0_22/AD6/CT16B1_MAT1/MISO1 (io), 31 PIO1_29/SCK0/CT32B0_CAP1 (io), 32 TDI/PIO0_11/AD0/CT32B0_MAT3 (io), 33 TMS/PIO0_12/AD1/CT32B1_CAP0 (io), 34 TDO/PIO0_13/AD2/CT32B1_MAT0 (io), 35 ~{TRST}/PIO0_14/AD3/CT32B1_MAT1 (io), 36 PIO1_13/~{DTR}/CT16B0_MAT0/TXD (io), 37 PIO1_14/~{DSR}/CT16B0_MAT1/RXD (io), 38 PIO1_22/~{RI}/MOSI1 (io), 39 SWDIO/PIO0_15/AD4/CT32B1_MAT2 (io), 40 PIO0_16/AD5/CT32B1_MAT3/WAKEUP (io), 41 VSS (power), 42 PIO0_23/AD7 (io), 43 PIO1_15/~{DCD}/CT16B0_MAT2/SCK1 (io), 44 VDD (power), 45 PIO0_17/~{RTS}/CT32B0_CAP0/SCLK (io), 46 PIO0_18/RXD/CT32B0_MAT0 (io), 47 PIO0_19/TXD/CT32B0_MAT1 (io), 48 PIO1_16/~{RI}/CT16B0_CAP0 (io)

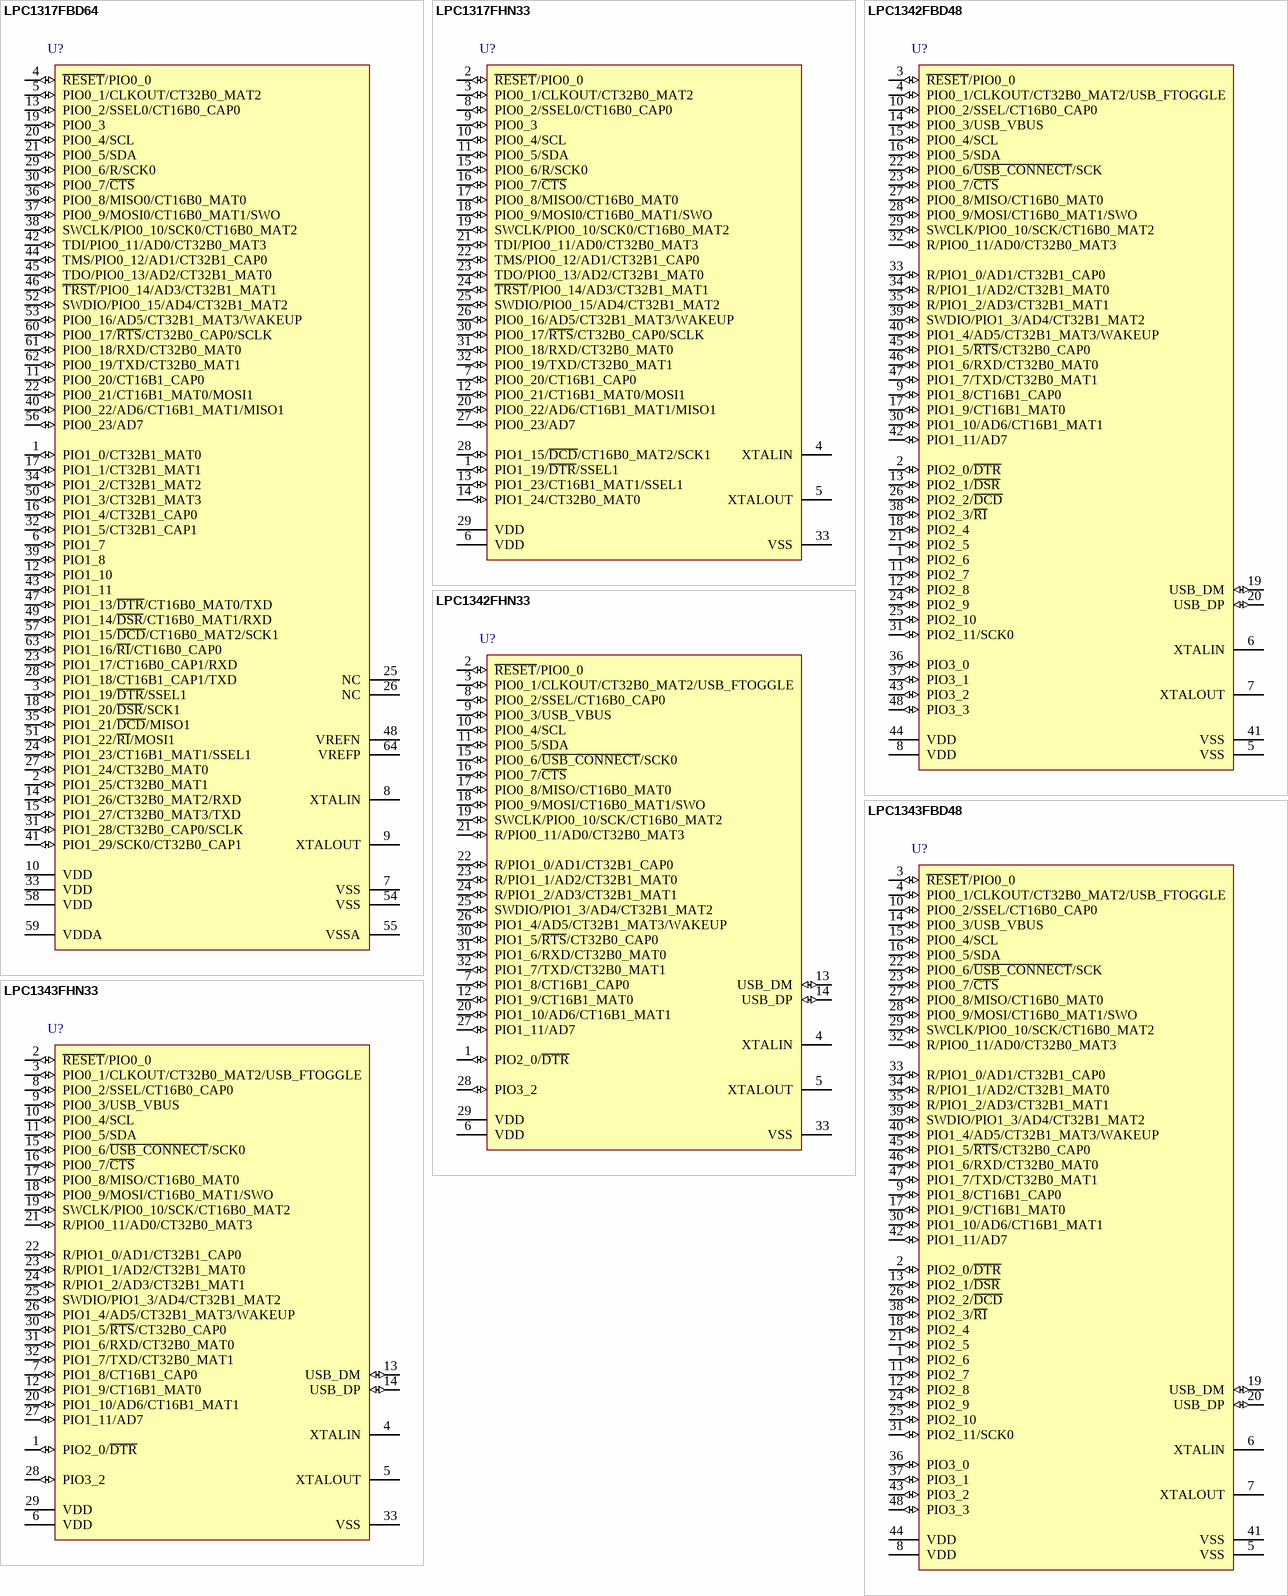
[diagram p2: symbols LPC1317FBD64 to LPC1343FHN33]

## LPC1317FBD64
designator U?
32-bit ARM Cortex-M3 MCU, 64 kB Flash, 10 kB SRAM, USART, EEPROM, 64-Pin LQFP; fmax: 72 MHz; SRAM: 10 kB; Flash: 64 kB; EEPROM: 4 kB; GPIOs: 51; UART: 1; SSP: 2; PLL: Y; ADC channels: 8; Timers: 4; VDD (min): 2 V; VDD (typ): 3.3 V; VDD (max): 3.6 V; Code_IEC: 136E10; DatasheetVersion: Rev. 1, Mar-2012; PackageVersion: Feb-2003; PackageReference: SOT314-2; PackageDescription: LQFP64: Plastic Low Profile Quad Flat Package; 64 Leads; Body 10 x 10 x 1.4 mm; I2C: 1; Code_JEDEC: MS-026; ComponentLink1Description: Manufacturer URL; ComponentLink1URL: http://www.nxp.com/; ComponentLink2Description: Datasheet; ComponentLink2URL: http://www.nxp.com/documents/data_sheet/LPC1315_16_17_45_46_47.pdf
footprint SOT314-2_V (Thin QFP, 64-Leads, Body 10x10mm, Pitch 0.5mm, NXP Recommended)
footprint SOT314-2_N (Thin QFP, 64-Leads, Body 10x10mm, Pitch 0.5mm, IPC Medium Density)
footprint SOT314-2_L (Thin QFP, 64-Leads, Body 10x10mm, Pitch 0.5mm, IPC High Density)
footprint SOT314-2_M (Thin QFP, 64-Leads, Body 10x10mm, Pitch 0.5mm, IPC Low Density)
pins: 1 PIO1_0/CT32B1_MAT0 (io), 2 PIO1_25/CT32B0_MAT1 (io), 3 PIO1_19/~{DTR}/SSEL1 (io), 4 ~{RESET}/PIO0_0 (io), 5 PIO0_1/CLKOUT/CT32B0_MAT2 (io), 6 PIO1_7 (io), 7 VSS (power), 8 XTALIN, 9 XTALOUT, 10 VDD (power), 11 PIO0_20/CT16B1_CAP0 (io), 12 PIO1_10 (io), 13 PIO0_2/SSEL0/CT16B0_CAP0 (io), 14 PIO1_26/CT32B0_MAT2/RXD (io), 15 PIO1_27/CT32B0_MAT3/TXD (io), 16 PIO1_4/CT32B1_CAP0 (io), 17 PIO1_1/CT32B1_MAT1 (io), 18 PIO1_20/~{DSR}/SCK1 (io), 19 PIO0_3 (io), 20 PIO0_4/SCL (io), 21 PIO0_5/SDA (io), 22 PIO0_21/CT16B1_MAT0/MOSI1 (io), 23 PIO1_17/CT16B0_CAP1/RXD (io), 24 PIO1_23/CT16B1_MAT1/SSEL1 (io), 25 NC, 26 NC, 27 PIO1_24/CT32B0_MAT0 (io), 28 PIO1_18/CT16B1_CAP1/TXD (io), 29 PIO0_6/R/SCK0 (io), 30 PIO0_7/~{CTS} (io), 31 PIO1_28/CT32B0_CAP0/SCLK (io), 32 PIO1_5/CT32B1_CAP1 (io), 33 VDD (power), 34 PIO1_2/CT32B1_MAT2 (io), 35 PIO1_21/~{DCD}/MISO1 (io), 36 PIO0_8/MISO0/CT16B0_MAT0 (io), 37 PIO0_9/MOSI0/CT16B0_MAT1/SWO (io), 38 SWCLK/PIO0_10/SCK0/CT16B0_MAT2 (io), 39 PIO1_8 (io), 40 PIO0_22/AD6/CT16B1_MAT1/MISO1 (io), 41 PIO1_29/SCK0/CT32B0_CAP1 (io), 42 TDI/PIO0_11/AD0/CT32B0_MAT3 (io), 43 PIO1_11 (io), 44 TMS/PIO0_12/AD1/CT32B1_CAP0 (io), 45 TDO/PIO0_13/AD2/CT32B1_MAT0 (io), 46 ~{TRST}/PIO0_14/AD3/CT32B1_MAT1 (io), 47 PIO1_13/~{DTR}/CT16B0_MAT0/TXD (io), 48 VREFN (power), 49 PIO1_14/~{DSR}/CT16B0_MAT1/RXD (io), 50 PIO1_3/CT32B1_MAT3 (io), 51 PIO1_22/~{RI}/MOSI1 (io), 52 SWDIO/PIO0_15/AD4/CT32B1_MAT2 (io), 53 PIO0_16/AD5/CT32B1_MAT3/WAKEUP (io), 54 VSS (power), 55 VSSA (power), 56 PIO0_23/AD7 (io), 57 PIO1_15/~{DCD}/CT16B0_MAT2/SCK1 (io), 58 VDD (power), 59 VDDA (power), 60 PIO0_17/~{RTS}/CT32B0_CAP0/SCLK (io), 61 PIO0_18/RXD/CT32B0_MAT0 (io), 62 PIO0_19/TXD/CT32B0_MAT1 (io), 63 PIO1_16/~{RI}/CT16B0_CAP0 (io), 64 VREFP (power)

## LPC1317FHN33
designator U?
32-bit ARM Cortex-M3 MCU, 64 kB Flash, 10 kB SRAM, USART, EEPROM, 32-Pin HVQFN; fmax: 72 MHz; SRAM: 10 kB; Flash: 64 kB; EEPROM: 4 kB; GPIOs: 28; UART: 1; SSP: 2; PLL: Y; ADC channels: 8; Timers: 4; VDD (min): 2 V; VDD (typ): 3.3 V; VDD (max): 3.6 V; DatasheetVersion: Rev. 1, Mar-2012; PackageVersion: Jun-2009; PackageReference: SOT865-3; PackageDescription: HVQFN32: Plastic Thermal Enhanced Very Thin Quad Flat Package; No Leads; 32 Terminals; Body 7 x 7 x 0.85 mm; I2C: 1; Code_JEDEC: MO-220; ComponentLink1Description: Manufacturer URL; ComponentLink1URL: http://www.nxp.com/; ComponentLink2Description: Datasheet; ComponentLink2URL: http://www.nxp.com/documents/data_sheet/LPC1315_16_17_45_46_47.pdf
footprint SOT865-3_V (QFN, 32-Leads, Body 7x7mm, Pitch 0.65mm, Thermal Pad 4.7x4.7mm, NXP Recommended)
footprint SOT865-3_N (QFN, 32-Leads, Body 7x7mm, Pitch 0.65mm, Thermal Pad 4.9x4.9mm, IPC Medium Density)
footprint SOT865-3_L (QFN, 32-Leads, Body 7x7mm, Pitch 0.65mm, Thermal Pad 4.9x4.9mm, IPC High Density)
footprint SOT865-3_M (QFN, 32-Leads, Body 7x7mm, Pitch 0.65mm, Thermal Pad 4.9x4.9mm, IPC Low Density)
pins: 1 PIO1_19/~{DTR}/SSEL1 (io), 2 ~{RESET}/PIO0_0 (io), 3 PIO0_1/CLKOUT/CT32B0_MAT2 (io), 4 XTALIN, 5 XTALOUT, 6 VDD (power), 7 PIO0_20/CT16B1_CAP0 (io), 8 PIO0_2/SSEL0/CT16B0_CAP0 (io), 9 PIO0_3 (io), 10 PIO0_4/SCL (io), 11 PIO0_5/SDA (io), 12 PIO0_21/CT16B1_MAT0/MOSI1 (io), 13 PIO1_23/CT16B1_MAT1/SSEL1 (io), 14 PIO1_24/CT32B0_MAT0 (io), 15 PIO0_6/R/SCK0 (io), 16 PIO0_7/~{CTS} (io), 17 PIO0_8/MISO0/CT16B0_MAT0 (io), 18 PIO0_9/MOSI0/CT16B0_MAT1/SWO (io), 19 SWCLK/PIO0_10/SCK0/CT16B0_MAT2 (io), 20 PIO0_22/AD6/CT16B1_MAT1/MISO1 (io), 21 TDI/PIO0_11/AD0/CT32B0_MAT3 (io), 22 TMS/PIO0_12/AD1/CT32B1_CAP0 (io), 23 TDO/PIO0_13/AD2/CT32B1_MAT0 (io), 24 ~{TRST}/PIO0_14/AD3/CT32B1_MAT1 (io), 25 SWDIO/PIO0_15/AD4/CT32B1_MAT2 (io), 26 PIO0_16/AD5/CT32B1_MAT3/WAKEUP (io), 27 PIO0_23/AD7 (io), 28 PIO1_15/~{DCD}/CT16B0_MAT2/SCK1 (io), 29 VDD (power), 30 PIO0_17/~{RTS}/CT32B0_CAP0/SCLK (io), 31 PIO0_18/RXD/CT32B0_MAT0 (io), 32 PIO0_19/TXD/CT32B0_MAT1 (io), 33 VSS (power)

## LPC1342FBD48
designator U?
32-bit ARM Cortex-M3 MCU, 16 kB Flash, 4 kB SRAM, 72 MHz performance, USB Device, 48-Pin LQFP; fmax: 72 MHz; SRAM: 4 kB; Flash: 16 kB; GPIOs: 42; USB: 1; PLL: Y; ADC channels: 8; Timers: 4; VDD (min): 2 V; VDD (typ): 3.3 V; VDD (max): 3.6 V; Code_IEC: 136E05; DatasheetVersion: Rev. 4, Jun-2011; PackageVersion: Feb-2003; PackageReference: SOT313-2; PackageDescription: LQFP48: Plastic Low Profile Quad Flat Package; 48 Leads; Body 7 x 7 x 1.4 mm; UART: 1; I2C: 1; SPI: 1; SSP: 1; Code_JEDEC: MS-026; ComponentLink1Description: Manufacturer URL; ComponentLink1URL: http://www.nxp.com/; ComponentLink2Description: Datasheet; ComponentLink2URL: http://www.nxp.com/documents/data_sheet/LPC1311_13_42_43.pdf
footprint SOT313-2_V (Thin QFP, 48-Leads, Body 7x7mm, Pitch 0.5mm, NXP Recommended)
footprint SOT313-2_N (Thin QFP, 48-Leads, Body 7x7mm, Pitch 0.5mm, IPC Medium Density)
footprint SOT313-2_L (Thin QFP, 48-Leads, Body 7x7mm, Pitch 0.5mm, IPC High Density)
footprint SOT313-2_M (Thin QFP, 48-Leads, Body 7x7mm, Pitch 0.5mm, IPC Low Density)
pins: 1 PIO2_6 (io), 2 PIO2_0/~{DTR} (io), 3 ~{RESET}/PIO0_0 (io), 4 PIO0_1/CLKOUT/CT32B0_MAT2/USB_FTOGGLE (io), 5 VSS (power), 6 XTALIN, 7 XTALOUT, 8 VDD (power), 9 PIO1_8/CT16B1_CAP0 (io), 10 PIO0_2/SSEL/CT16B0_CAP0 (io), 11 PIO2_7 (io), 12 PIO2_8 (io), 13 PIO2_1/~{DSR} (io), 14 PIO0_3/USB_VBUS (io), 15 PIO0_4/SCL (io), 16 PIO0_5/SDA (io), 17 PIO1_9/CT16B1_MAT0 (io), 18 PIO2_4 (io), 19 USB_DM (io), 20 USB_DP (io), 21 PIO2_5 (io), 22 PIO0_6/~{USB_CONNECT}/SCK (io), 23 PIO0_7/~{CTS} (io), 24 PIO2_9 (io), 25 PIO2_10 (io), 26 PIO2_2/~{DCD} (io), 27 PIO0_8/MISO/CT16B0_MAT0 (io), 28 PIO0_9/MOSI/CT16B0_MAT1/SWO (io), 29 SWCLK/PIO0_10/SCK/CT16B0_MAT2 (io), 30 PIO1_10/AD6/CT16B1_MAT1 (io), 31 PIO2_11/SCK0 (io), 32 R/PIO0_11/AD0/CT32B0_MAT3 (io), 33 R/PIO1_0/AD1/CT32B1_CAP0 (io), 34 R/PIO1_1/AD2/CT32B1_MAT0 (io), 35 R/PIO1_2/AD3/CT32B1_MAT1 (io), 36 PIO3_0 (io), 37 PIO3_1 (io), 38 PIO2_3/~{RI} (io), 39 SWDIO/PIO1_3/AD4/CT32B1_MAT2 (io), 40 PIO1_4/AD5/CT32B1_MAT3/WAKEUP (io), 41 VSS (power), 42 PIO1_11/AD7 (io), 43 PIO3_2 (io), 44 VDD (power), 45 PIO1_5/~{RTS}/CT32B0_CAP0 (io), 46 PIO1_6/RXD/CT32B0_MAT0 (io), 47 PIO1_7/TXD/CT32B0_MAT1 (io), 48 PIO3_3 (io)

## LPC1342FHN33
designator U?
32-bit ARM Cortex-M3 MCU, 16 kB Flash, 4 kB SRAM, 72 MHz, USB device, 32-Pin HVQFN; fmax: 72 MHz; SRAM: 4 kB; Flash: 16 kB; GPIOs: 26; USB: 1; PLL: Y; ADC channels: 8; Timers: 4; VDD (min): 2 V; VDD (typ): 3.3 V; VDD (max): 3.6 V; DatasheetVersion: Rev. 4, Jun-2011; PackageVersion: Jun-2009; PackageReference: SOT865-3; PackageDescription: HVQFN32: Plastic Thermal Enhanced Very Thin Quad Flat Package; No Leads; 32 Terminals; Body 7 x 7 x 0.85 mm; UART: 1; I2C: 1; SPI: 1; SSP: 1; Code_JEDEC: MO-220; ComponentLink1Description: Manufacturer URL; ComponentLink1URL: http://www.nxp.com/; ComponentLink2Description: Datasheet; ComponentLink2URL: http://www.nxp.com/documents/data_sheet/LPC1311_13_42_43.pdf
footprint SOT865-3_V (QFN, 32-Leads, Body 7x7mm, Pitch 0.65mm, Thermal Pad 4.7x4.7mm, NXP Recommended)
footprint SOT865-3_N (QFN, 32-Leads, Body 7x7mm, Pitch 0.65mm, Thermal Pad 4.9x4.9mm, IPC Medium Density)
footprint SOT865-3_L (QFN, 32-Leads, Body 7x7mm, Pitch 0.65mm, Thermal Pad 4.9x4.9mm, IPC High Density)
footprint SOT865-3_M (QFN, 32-Leads, Body 7x7mm, Pitch 0.65mm, Thermal Pad 4.9x4.9mm, IPC Low Density)
pins: 1 PIO2_0/~{DTR} (io), 2 ~{RESET}/PIO0_0 (io), 3 PIO0_1/CLKOUT/CT32B0_MAT2/USB_FTOGGLE (io), 4 XTALIN, 5 XTALOUT, 6 VDD (power), 7 PIO1_8/CT16B1_CAP0 (io), 8 PIO0_2/SSEL/CT16B0_CAP0 (io), 9 PIO0_3/USB_VBUS (io), 10 PIO0_4/SCL (io), 11 PIO0_5/SDA (io), 12 PIO1_9/CT16B1_MAT0 (io), 13 USB_DM (io), 14 USB_DP (io), 15 PIO0_6/~{USB_CONNECT}/SCK0 (io), 16 PIO0_7/~{CTS} (io), 17 PIO0_8/MISO/CT16B0_MAT0 (io), 18 PIO0_9/MOSI/CT16B0_MAT1/SWO (io), 19 SWCLK/PIO0_10/SCK/CT16B0_MAT2 (io), 20 PIO1_10/AD6/CT16B1_MAT1 (io), 21 R/PIO0_11/AD0/CT32B0_MAT3 (io), 22 R/PIO1_0/AD1/CT32B1_CAP0 (io), 23 R/PIO1_1/AD2/CT32B1_MAT0 (io), 24 R/PIO1_2/AD3/CT32B1_MAT1 (io), 25 SWDIO/PIO1_3/AD4/CT32B1_MAT2 (io), 26 PIO1_4/AD5/CT32B1_MAT3/WAKEUP (io), 27 PIO1_11/AD7 (io), 28 PIO3_2 (io), 29 VDD (power), 30 PIO1_5/~{RTS}/CT32B0_CAP0 (io), 31 PIO1_6/RXD/CT32B0_MAT0 (io), 32 PIO1_7/TXD/CT32B0_MAT1 (io), 33 VSS (power)

## LPC1343FBD48
designator U?
32-bit ARM Cortex-M3 MCU, 32 kB Flash, 8 kB SRAM, 72 MHz, USB device, 48-Pin LQFP; fmax: 72 MHz; SRAM: 8 kB; Flash: 32 kB; GPIOs: 40; USB: 1; PLL: Y; ADC channels: 8; Timers: 4; VDD (min): 2 V; VDD (typ): 3.3 V; VDD (max): 3.6 V; Code_IEC: 136E05; DatasheetVersion: Rev. 4, Jun-2011; PackageVersion: Feb-2003; PackageReference: SOT313-2; PackageDescription: LQFP48: Plastic Low Profile Quad Flat Package; 48 Leads; Body 7 x 7 x 1.4 mm; UART: 1; I2C: 1; SPI: 1; SSP: 1; Code_JEDEC: MS-026; ComponentLink1Description: Manufacturer URL; ComponentLink1URL: http://www.nxp.com/; ComponentLink2Description: Datasheet; ComponentLink2URL: http://www.nxp.com/documents/data_sheet/LPC1311_13_42_43.pdf
footprint SOT313-2_V (Thin QFP, 48-Leads, Body 7x7mm, Pitch 0.5mm, NXP Recommended)
footprint SOT313-2_N (Thin QFP, 48-Leads, Body 7x7mm, Pitch 0.5mm, IPC Medium Density)
footprint SOT313-2_L (Thin QFP, 48-Leads, Body 7x7mm, Pitch 0.5mm, IPC High Density)
footprint SOT313-2_M (Thin QFP, 48-Leads, Body 7x7mm, Pitch 0.5mm, IPC Low Density)
pins: 1 PIO2_6 (io), 2 PIO2_0/~{DTR} (io), 3 ~{RESET}/PIO0_0 (io), 4 PIO0_1/CLKOUT/CT32B0_MAT2/USB_FTOGGLE (io), 5 VSS (power), 6 XTALIN, 7 XTALOUT, 8 VDD (power), 9 PIO1_8/CT16B1_CAP0 (io), 10 PIO0_2/SSEL/CT16B0_CAP0 (io), 11 PIO2_7 (io), 12 PIO2_8 (io), 13 PIO2_1/~{DSR} (io), 14 PIO0_3/USB_VBUS (io), 15 PIO0_4/SCL (io), 16 PIO0_5/SDA (io), 17 PIO1_9/CT16B1_MAT0 (io), 18 PIO2_4 (io), 19 USB_DM (io), 20 USB_DP (io), 21 PIO2_5 (io), 22 PIO0_6/~{USB_CONNECT}/SCK (io), 23 PIO0_7/~{CTS} (io), 24 PIO2_9 (io), 25 PIO2_10 (io), 26 PIO2_2/~{DCD} (io), 27 PIO0_8/MISO/CT16B0_MAT0 (io), 28 PIO0_9/MOSI/CT16B0_MAT1/SWO (io), 29 SWCLK/PIO0_10/SCK/CT16B0_MAT2 (io), 30 PIO1_10/AD6/CT16B1_MAT1 (io), 31 PIO2_11/SCK0 (io), 32 R/PIO0_11/AD0/CT32B0_MAT3 (io), 33 R/PIO1_0/AD1/CT32B1_CAP0 (io), 34 R/PIO1_1/AD2/CT32B1_MAT0 (io), 35 R/PIO1_2/AD3/CT32B1_MAT1 (io), 36 PIO3_0 (io), 37 PIO3_1 (io), 38 PIO2_3/~{RI} (io), 39 SWDIO/PIO1_3/AD4/CT32B1_MAT2 (io), 40 PIO1_4/AD5/CT32B1_MAT3/WAKEUP (io), 41 VSS (power), 42 PIO1_11/AD7 (io), 43 PIO3_2 (io), 44 VDD (power), 45 PIO1_5/~{RTS}/CT32B0_CAP0 (io), 46 PIO1_6/RXD/CT32B0_MAT0 (io), 47 PIO1_7/TXD/CT32B0_MAT1 (io), 48 PIO3_3 (io)

## LPC1343FHN33
designator U?
32-bit ARM Cortex-M3 MCU, 32 kB Flash, 8 kB SRAM, 72 MHz, USB device, 32-Pin HVQFN; fmax: 72 MHz; SRAM: 8 kB; Flash: 32 kB; GPIOs: 26; USB: 1; PLL: Y; ADC channels: 8; Timers: 4; VDD (min): 2 V; VDD (typ): 3.3 V; VDD (max): 3.6 V; DatasheetVersion: Rev. 4, Jun-2011; PackageVersion: Jun-2009; PackageReference: SOT865-3; PackageDescription: HVQFN32: Plastic Thermal Enhanced Very Thin Quad Flat Package; No Leads; 32 Terminals; Body 7 x 7 x 0.85 mm; UART: 1; I2C: 1; SPI: 1; SSP: 1; Code_JEDEC: MO-220; ComponentLink1Description: Manufacturer URL; ComponentLink1URL: http://www.nxp.com/; ComponentLink2Description: Datasheet; ComponentLink2URL: http://www.nxp.com/documents/data_sheet/LPC1311_13_42_43.pdf
footprint SOT865-3_V (QFN, 32-Leads, Body 7x7mm, Pitch 0.65mm, Thermal Pad 4.7x4.7mm, NXP Recommended)
footprint SOT865-3_N (QFN, 32-Leads, Body 7x7mm, Pitch 0.65mm, Thermal Pad 4.9x4.9mm, IPC Medium Density)
footprint SOT865-3_L (QFN, 32-Leads, Body 7x7mm, Pitch 0.65mm, Thermal Pad 4.9x4.9mm, IPC High Density)
footprint SOT865-3_M (QFN, 32-Leads, Body 7x7mm, Pitch 0.65mm, Thermal Pad 4.9x4.9mm, IPC Low Density)
pins: 1 PIO2_0/~{DTR} (io), 2 ~{RESET}/PIO0_0 (io), 3 PIO0_1/CLKOUT/CT32B0_MAT2/USB_FTOGGLE (io), 4 XTALIN, 5 XTALOUT, 6 VDD (power), 7 PIO1_8/CT16B1_CAP0 (io), 8 PIO0_2/SSEL/CT16B0_CAP0 (io), 9 PIO0_3/USB_VBUS (io), 10 PIO0_4/SCL (io), 11 PIO0_5/SDA (io), 12 PIO1_9/CT16B1_MAT0 (io), 13 USB_DM (io), 14 USB_DP (io), 15 PIO0_6/~{USB_CONNECT}/SCK0 (io), 16 PIO0_7/~{CTS} (io), 17 PIO0_8/MISO/CT16B0_MAT0 (io), 18 PIO0_9/MOSI/CT16B0_MAT1/SWO (io), 19 SWCLK/PIO0_10/SCK/CT16B0_MAT2 (io), 20 PIO1_10/AD6/CT16B1_MAT1 (io), 21 R/PIO0_11/AD0/CT32B0_MAT3 (io), 22 R/PIO1_0/AD1/CT32B1_CAP0 (io), 23 R/PIO1_1/AD2/CT32B1_MAT0 (io), 24 R/PIO1_2/AD3/CT32B1_MAT1 (io), 25 SWDIO/PIO1_3/AD4/CT32B1_MAT2 (io), 26 PIO1_4/AD5/CT32B1_MAT3/WAKEUP (io), 27 PIO1_11/AD7 (io), 28 PIO3_2 (io), 29 VDD (power), 30 PIO1_5/~{RTS}/CT32B0_CAP0 (io), 31 PIO1_6/RXD/CT32B0_MAT0 (io), 32 PIO1_7/TXD/CT32B0_MAT1 (io), 33 VSS (power)

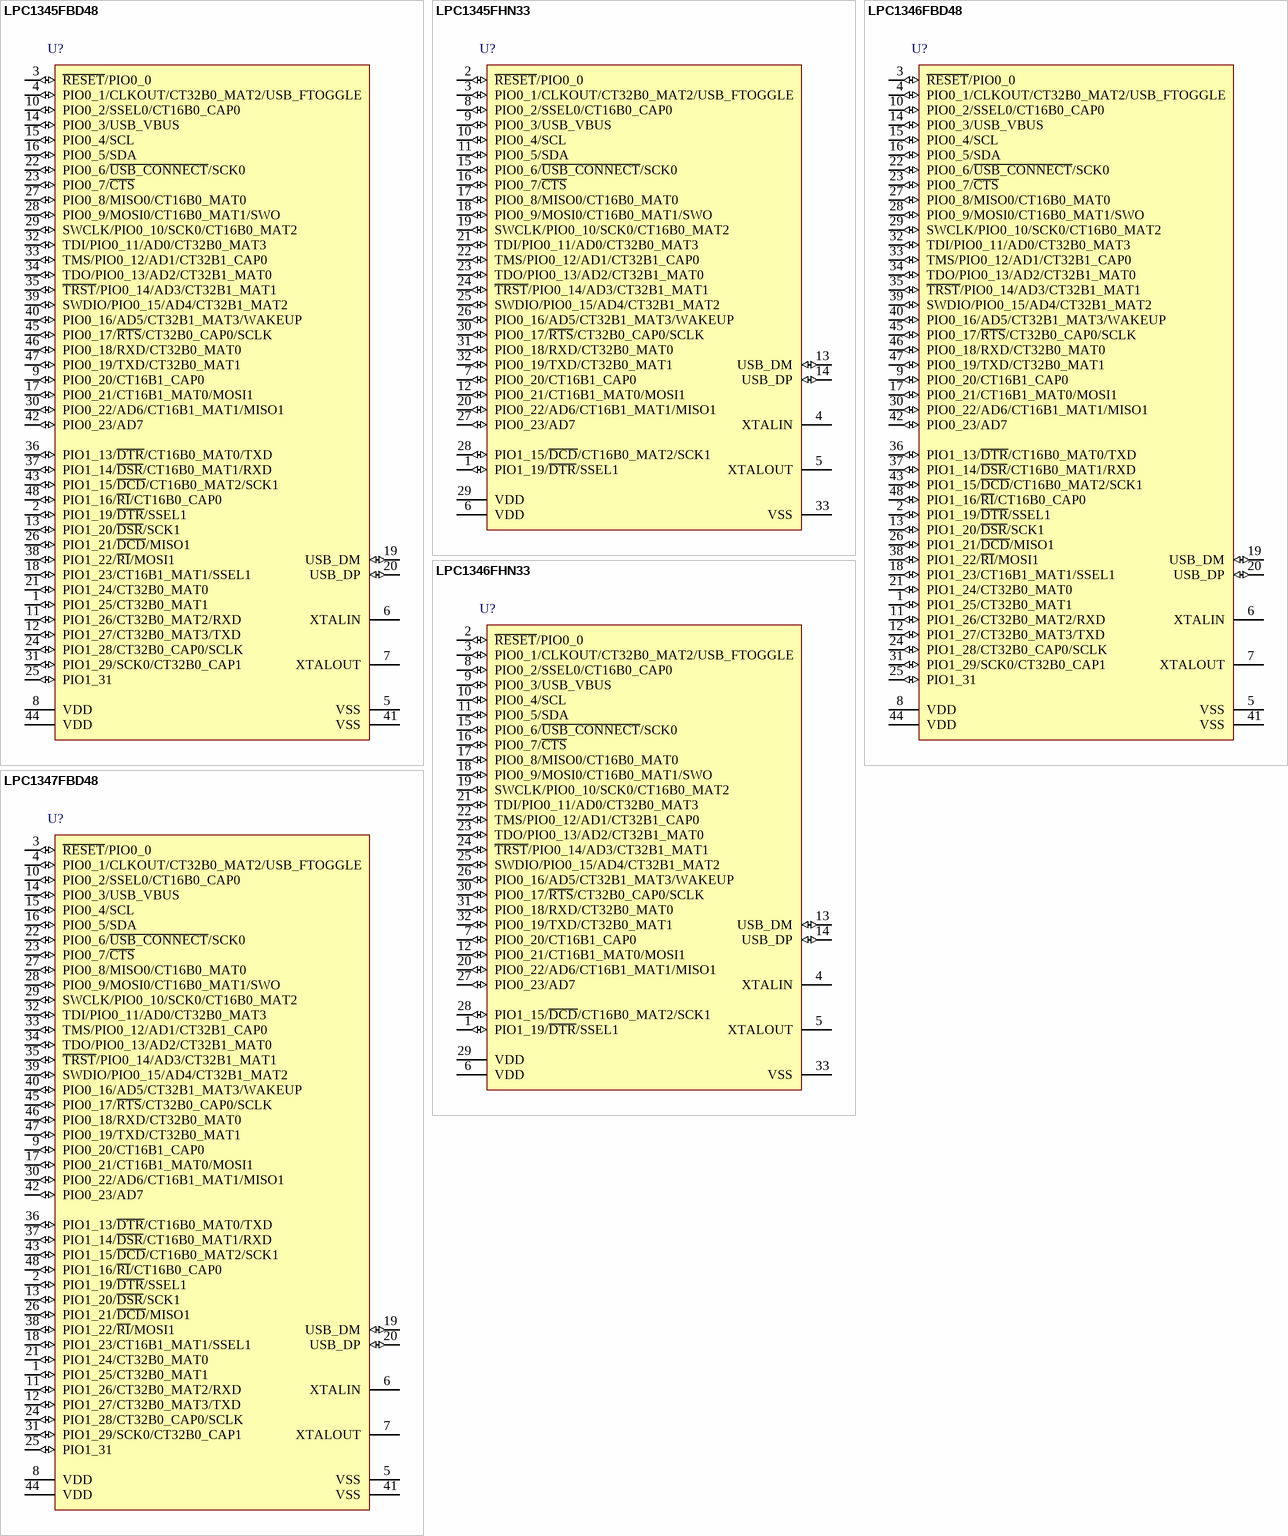
[diagram p3: symbols LPC1345FBD48 to LPC1347FBD48]

## LPC1345FBD48
designator U?
32-bit ARM Cortex-M3 MCU, 32 kB Flash, 10 kB SRAM, USB device, USART, EEPROM, 48-Pin LQFP; fmax: 72 MHz; SRAM: 10 kB; Flash: 32 kB; EEPROM: 2 kB; GPIOs: 40; USB: 1; SSP: 2; PLL: Y; ADC channels: 8; Timers: 4; VDD (min): 2 V; VDD (typ): 3.3 V; VDD (max): 3.6 V; Code_IEC: 136E05; DatasheetVersion: Rev. 1, Mar-2012; PackageVersion: Feb-2003; PackageReference: SOT313-2; PackageDescription: LQFP48: Plastic Low Profile Quad Flat Package; 48 Leads; Body 7 x 7 x 1.4 mm; UART: 1; I2C: 1; Code_JEDEC: MS-026; ComponentLink1Description: Manufacturer URL; ComponentLink1URL: http://www.nxp.com/; ComponentLink2Description: Datasheet; ComponentLink2URL: http://www.nxp.com/documents/data_sheet/LPC1315_16_17_45_46_47.pdf
footprint SOT313-2_V (Thin QFP, 48-Leads, Body 7x7mm, Pitch 0.5mm, NXP Recommended)
footprint SOT313-2_N (Thin QFP, 48-Leads, Body 7x7mm, Pitch 0.5mm, IPC Medium Density)
footprint SOT313-2_L (Thin QFP, 48-Leads, Body 7x7mm, Pitch 0.5mm, IPC High Density)
footprint SOT313-2_M (Thin QFP, 48-Leads, Body 7x7mm, Pitch 0.5mm, IPC Low Density)
pins: 1 PIO1_25/CT32B0_MAT1 (io), 2 PIO1_19/~{DTR}/SSEL1 (io), 3 ~{RESET}/PIO0_0 (io), 4 PIO0_1/CLKOUT/CT32B0_MAT2/USB_FTOGGLE (io), 5 VSS (power), 6 XTALIN, 7 XTALOUT, 8 VDD (power), 9 PIO0_20/CT16B1_CAP0 (io), 10 PIO0_2/SSEL0/CT16B0_CAP0 (io), 11 PIO1_26/CT32B0_MAT2/RXD (io), 12 PIO1_27/CT32B0_MAT3/TXD (io), 13 PIO1_20/~{DSR}/SCK1 (io), 14 PIO0_3/USB_VBUS (io), 15 PIO0_4/SCL (io), 16 PIO0_5/SDA (io), 17 PIO0_21/CT16B1_MAT0/MOSI1 (io), 18 PIO1_23/CT16B1_MAT1/SSEL1 (io), 19 USB_DM (io), 20 USB_DP (io), 21 PIO1_24/CT32B0_MAT0 (io), 22 PIO0_6/~{USB_CONNECT}/SCK0 (io), 23 PIO0_7/~{CTS} (io), 24 PIO1_28/CT32B0_CAP0/SCLK (io), 25 PIO1_31 (io), 26 PIO1_21/~{DCD}/MISO1 (io), 27 PIO0_8/MISO0/CT16B0_MAT0 (io), 28 PIO0_9/MOSI0/CT16B0_MAT1/SWO (io), 29 SWCLK/PIO0_10/SCK0/CT16B0_MAT2 (io), 30 PIO0_22/AD6/CT16B1_MAT1/MISO1 (io), 31 PIO1_29/SCK0/CT32B0_CAP1 (io), 32 TDI/PIO0_11/AD0/CT32B0_MAT3 (io), 33 TMS/PIO0_12/AD1/CT32B1_CAP0 (io), 34 TDO/PIO0_13/AD2/CT32B1_MAT0 (io), 35 ~{TRST}/PIO0_14/AD3/CT32B1_MAT1 (io), 36 PIO1_13/~{DTR}/CT16B0_MAT0/TXD (io), 37 PIO1_14/~{DSR}/CT16B0_MAT1/RXD (io), 38 PIO1_22/~{RI}/MOSI1 (io), 39 SWDIO/PIO0_15/AD4/CT32B1_MAT2 (io), 40 PIO0_16/AD5/CT32B1_MAT3/WAKEUP (io), 41 VSS (power), 42 PIO0_23/AD7 (io), 43 PIO1_15/~{DCD}/CT16B0_MAT2/SCK1 (io), 44 VDD (power), 45 PIO0_17/~{RTS}/CT32B0_CAP0/SCLK (io), 46 PIO0_18/RXD/CT32B0_MAT0 (io), 47 PIO0_19/TXD/CT32B0_MAT1 (io), 48 PIO1_16/~{RI}/CT16B0_CAP0 (io)

## LPC1345FHN33
designator U?
32-bit ARM Cortex-M3 MCU, 32 kB Flash, 10 kB SRAM, USB device, USART, EEPROM, 32-Pin HVQFN; fmax: 72 MHz; SRAM: 10 kB; Flash: 32 kB; EEPROM: 2 kB; GPIOs: 26; USB: 1; SSP: 2; PLL: Y; ADC channels: 8; Timers: 4; VDD (min): 2 V; VDD (typ): 3.3 V; VDD (max): 3.6 V; DatasheetVersion: Rev. 1, Mar-2012; PackageVersion: Jun-2009; PackageReference: SOT865-3; PackageDescription: HVQFN32: Plastic Thermal Enhanced Very Thin Quad Flat Package; No Leads; 32 Terminals; Body 7 x 7 x 0.85 mm; UART: 1; I2C: 1; Code_JEDEC: MO-220; ComponentLink1Description: Manufacturer URL; ComponentLink1URL: http://www.nxp.com/; ComponentLink2Description: Datasheet; ComponentLink2URL: http://www.nxp.com/documents/data_sheet/LPC1315_16_17_45_46_47.pdf
footprint SOT865-3_V (QFN, 32-Leads, Body 7x7mm, Pitch 0.65mm, Thermal Pad 4.7x4.7mm, NXP Recommended)
footprint SOT865-3_N (QFN, 32-Leads, Body 7x7mm, Pitch 0.65mm, Thermal Pad 4.9x4.9mm, IPC Medium Density)
footprint SOT865-3_L (QFN, 32-Leads, Body 7x7mm, Pitch 0.65mm, Thermal Pad 4.9x4.9mm, IPC High Density)
footprint SOT865-3_M (QFN, 32-Leads, Body 7x7mm, Pitch 0.65mm, Thermal Pad 4.9x4.9mm, IPC Low Density)
pins: 1 PIO1_19/~{DTR}/SSEL1 (io), 2 ~{RESET}/PIO0_0 (io), 3 PIO0_1/CLKOUT/CT32B0_MAT2/USB_FTOGGLE (io), 4 XTALIN, 5 XTALOUT, 6 VDD (power), 7 PIO0_20/CT16B1_CAP0 (io), 8 PIO0_2/SSEL0/CT16B0_CAP0 (io), 9 PIO0_3/USB_VBUS (io), 10 PIO0_4/SCL (io), 11 PIO0_5/SDA (io), 12 PIO0_21/CT16B1_MAT0/MOSI1 (io), 13 USB_DM (io), 14 USB_DP (io), 15 PIO0_6/~{USB_CONNECT}/SCK0 (io), 16 PIO0_7/~{CTS} (io), 17 PIO0_8/MISO0/CT16B0_MAT0 (io), 18 PIO0_9/MOSI0/CT16B0_MAT1/SWO (io), 19 SWCLK/PIO0_10/SCK0/CT16B0_MAT2 (io), 20 PIO0_22/AD6/CT16B1_MAT1/MISO1 (io), 21 TDI/PIO0_11/AD0/CT32B0_MAT3 (io), 22 TMS/PIO0_12/AD1/CT32B1_CAP0 (io), 23 TDO/PIO0_13/AD2/CT32B1_MAT0 (io), 24 ~{TRST}/PIO0_14/AD3/CT32B1_MAT1 (io), 25 SWDIO/PIO0_15/AD4/CT32B1_MAT2 (io), 26 PIO0_16/AD5/CT32B1_MAT3/WAKEUP (io), 27 PIO0_23/AD7 (io), 28 PIO1_15/~{DCD}/CT16B0_MAT2/SCK1 (io), 29 VDD (power), 30 PIO0_17/~{RTS}/CT32B0_CAP0/SCLK (io), 31 PIO0_18/RXD/CT32B0_MAT0 (io), 32 PIO0_19/TXD/CT32B0_MAT1 (io), 33 VSS (power)

## LPC1346FBD48
designator U?
32-bit ARM Cortex-M3 MCU, 48 kB Flash, 10 kB SRAM, USB device, USART, EEPROM, 48-Pin LQFP; fmax: 72 MHz; SRAM: 10 kB; Flash: 48 kB; EEPROM: 4 kB; GPIOs: 40; USB: 1; SSP: 2; PLL: Y; ADC channels: 8; Timers: 4; VDD (min): 2 V; VDD (typ): 3.3 V; VDD (max): 3.6 V; Code_IEC: 136E05; DatasheetVersion: Rev. 1, Mar-2012; PackageVersion: Feb-2003; PackageReference: SOT313-2; PackageDescription: LQFP48: Plastic Low Profile Quad Flat Package; 48 Leads; Body 7 x 7 x 1.4 mm; UART: 1; I2C: 1; Code_JEDEC: MS-026; ComponentLink1Description: Manufacturer URL; ComponentLink1URL: http://www.nxp.com/; ComponentLink2Description: Datasheet; ComponentLink2URL: http://www.nxp.com/documents/data_sheet/LPC1315_16_17_45_46_47.pdf
footprint SOT313-2_V (Thin QFP, 48-Leads, Body 7x7mm, Pitch 0.5mm, NXP Recommended)
footprint SOT313-2_N (Thin QFP, 48-Leads, Body 7x7mm, Pitch 0.5mm, IPC Medium Density)
footprint SOT313-2_L (Thin QFP, 48-Leads, Body 7x7mm, Pitch 0.5mm, IPC High Density)
footprint SOT313-2_M (Thin QFP, 48-Leads, Body 7x7mm, Pitch 0.5mm, IPC Low Density)
pins: 1 PIO1_25/CT32B0_MAT1 (io), 2 PIO1_19/~{DTR}/SSEL1 (io), 3 ~{RESET}/PIO0_0 (io), 4 PIO0_1/CLKOUT/CT32B0_MAT2/USB_FTOGGLE (io), 5 VSS (power), 6 XTALIN, 7 XTALOUT, 8 VDD (power), 9 PIO0_20/CT16B1_CAP0 (io), 10 PIO0_2/SSEL0/CT16B0_CAP0 (io), 11 PIO1_26/CT32B0_MAT2/RXD (io), 12 PIO1_27/CT32B0_MAT3/TXD (io), 13 PIO1_20/~{DSR}/SCK1 (io), 14 PIO0_3/USB_VBUS (io), 15 PIO0_4/SCL (io), 16 PIO0_5/SDA (io), 17 PIO0_21/CT16B1_MAT0/MOSI1 (io), 18 PIO1_23/CT16B1_MAT1/SSEL1 (io), 19 USB_DM (io), 20 USB_DP (io), 21 PIO1_24/CT32B0_MAT0 (io), 22 PIO0_6/~{USB_CONNECT}/SCK0 (io), 23 PIO0_7/~{CTS} (io), 24 PIO1_28/CT32B0_CAP0/SCLK (io), 25 PIO1_31 (io), 26 PIO1_21/~{DCD}/MISO1 (io), 27 PIO0_8/MISO0/CT16B0_MAT0 (io), 28 PIO0_9/MOSI0/CT16B0_MAT1/SWO (io), 29 SWCLK/PIO0_10/SCK0/CT16B0_MAT2 (io), 30 PIO0_22/AD6/CT16B1_MAT1/MISO1 (io), 31 PIO1_29/SCK0/CT32B0_CAP1 (io), 32 TDI/PIO0_11/AD0/CT32B0_MAT3 (io), 33 TMS/PIO0_12/AD1/CT32B1_CAP0 (io), 34 TDO/PIO0_13/AD2/CT32B1_MAT0 (io), 35 ~{TRST}/PIO0_14/AD3/CT32B1_MAT1 (io), 36 PIO1_13/~{DTR}/CT16B0_MAT0/TXD (io), 37 PIO1_14/~{DSR}/CT16B0_MAT1/RXD (io), 38 PIO1_22/~{RI}/MOSI1 (io), 39 SWDIO/PIO0_15/AD4/CT32B1_MAT2 (io), 40 PIO0_16/AD5/CT32B1_MAT3/WAKEUP (io), 41 VSS (power), 42 PIO0_23/AD7 (io), 43 PIO1_15/~{DCD}/CT16B0_MAT2/SCK1 (io), 44 VDD (power), 45 PIO0_17/~{RTS}/CT32B0_CAP0/SCLK (io), 46 PIO0_18/RXD/CT32B0_MAT0 (io), 47 PIO0_19/TXD/CT32B0_MAT1 (io), 48 PIO1_16/~{RI}/CT16B0_CAP0 (io)

## LPC1346FHN33
designator U?
32-bit ARM Cortex-M3 MCU, 48 kB Flash, 10 kB SRAM, USB device, USART, EEPROM, 32-Pin HVQFN; fmax: 72 MHz; SRAM: 10 kB; Flash: 48 kB; EEPROM: 4 kB; GPIOs: 26; USB: 1; SSP: 2; PLL: Y; ADC channels: 8; Timers: 4; VDD (min): 2 V; VDD (typ): 3.3 V; VDD (max): 3.6 V; DatasheetVersion: Rev. 1, Mar-2012; PackageVersion: Jun-2009; PackageReference: SOT865-3; PackageDescription: HVQFN32: Plastic Thermal Enhanced Very Thin Quad Flat Package; No Leads; 32 Terminals; Body 7 x 7 x 0.85 mm; UART: 1; I2C: 1; Code_JEDEC: MO-220; ComponentLink1Description: Manufacturer URL; ComponentLink1URL: http://www.nxp.com/; ComponentLink2Description: Datasheet; ComponentLink2URL: http://www.nxp.com/documents/data_sheet/LPC1315_16_17_45_46_47.pdf
footprint SOT865-3_V (QFN, 32-Leads, Body 7x7mm, Pitch 0.65mm, Thermal Pad 4.7x4.7mm, NXP Recommended)
footprint SOT865-3_N (QFN, 32-Leads, Body 7x7mm, Pitch 0.65mm, Thermal Pad 4.9x4.9mm, IPC Medium Density)
footprint SOT865-3_L (QFN, 32-Leads, Body 7x7mm, Pitch 0.65mm, Thermal Pad 4.9x4.9mm, IPC High Density)
footprint SOT865-3_M (QFN, 32-Leads, Body 7x7mm, Pitch 0.65mm, Thermal Pad 4.9x4.9mm, IPC Low Density)
pins: 1 PIO1_19/~{DTR}/SSEL1 (io), 2 ~{RESET}/PIO0_0 (io), 3 PIO0_1/CLKOUT/CT32B0_MAT2/USB_FTOGGLE (io), 4 XTALIN, 5 XTALOUT, 6 VDD (power), 7 PIO0_20/CT16B1_CAP0 (io), 8 PIO0_2/SSEL0/CT16B0_CAP0 (io), 9 PIO0_3/USB_VBUS (io), 10 PIO0_4/SCL (io), 11 PIO0_5/SDA (io), 12 PIO0_21/CT16B1_MAT0/MOSI1 (io), 13 USB_DM (io), 14 USB_DP (io), 15 PIO0_6/~{USB_CONNECT}/SCK0 (io), 16 PIO0_7/~{CTS} (io), 17 PIO0_8/MISO0/CT16B0_MAT0 (io), 18 PIO0_9/MOSI0/CT16B0_MAT1/SWO (io), 19 SWCLK/PIO0_10/SCK0/CT16B0_MAT2 (io), 20 PIO0_22/AD6/CT16B1_MAT1/MISO1 (io), 21 TDI/PIO0_11/AD0/CT32B0_MAT3 (io), 22 TMS/PIO0_12/AD1/CT32B1_CAP0 (io), 23 TDO/PIO0_13/AD2/CT32B1_MAT0 (io), 24 ~{TRST}/PIO0_14/AD3/CT32B1_MAT1 (io), 25 SWDIO/PIO0_15/AD4/CT32B1_MAT2 (io), 26 PIO0_16/AD5/CT32B1_MAT3/WAKEUP (io), 27 PIO0_23/AD7 (io), 28 PIO1_15/~{DCD}/CT16B0_MAT2/SCK1 (io), 29 VDD (power), 30 PIO0_17/~{RTS}/CT32B0_CAP0/SCLK (io), 31 PIO0_18/RXD/CT32B0_MAT0 (io), 32 PIO0_19/TXD/CT32B0_MAT1 (io), 33 VSS (power)

## LPC1347FBD48
designator U?
32-bit ARM Cortex-M3 MCU, 64 kB Flash, 12 kB SRAM, USB device, USART, EEPROM, 48-Pin LQFP; fmax: 72 MHz; SRAM: 12 kB; Flash: 64 kB; EEPROM: 4 kB; GPIOs: 40; USB: 1; SSP: 2; PLL: Y; ADC channels: 8; Timers: 4; VDD (min): 2 V; VDD (typ): 3.3 V; VDD (max): 3.6 V; Code_IEC: 136E05; DatasheetVersion: Rev. 1, Mar-2012; PackageVersion: Feb-2003; PackageReference: SOT313-2; PackageDescription: LQFP48: Plastic Low Profile Quad Flat Package; 48 Leads; Body 7 x 7 x 1.4 mm; UART: 1; I2C: 1; Code_JEDEC: MS-026; ComponentLink1Description: Manufacturer URL; ComponentLink1URL: http://www.nxp.com/; ComponentLink2Description: Datasheet; ComponentLink2URL: http://www.nxp.com/documents/data_sheet/LPC1315_16_17_45_46_47.pdf
footprint SOT313-2_V (Thin QFP, 48-Leads, Body 7x7mm, Pitch 0.5mm, NXP Recommended)
footprint SOT313-2_N (Thin QFP, 48-Leads, Body 7x7mm, Pitch 0.5mm, IPC Medium Density)
footprint SOT313-2_L (Thin QFP, 48-Leads, Body 7x7mm, Pitch 0.5mm, IPC High Density)
footprint SOT313-2_M (Thin QFP, 48-Leads, Body 7x7mm, Pitch 0.5mm, IPC Low Density)
pins: 1 PIO1_25/CT32B0_MAT1 (io), 2 PIO1_19/~{DTR}/SSEL1 (io), 3 ~{RESET}/PIO0_0 (io), 4 PIO0_1/CLKOUT/CT32B0_MAT2/USB_FTOGGLE (io), 5 VSS (power), 6 XTALIN, 7 XTALOUT, 8 VDD (power), 9 PIO0_20/CT16B1_CAP0 (io), 10 PIO0_2/SSEL0/CT16B0_CAP0 (io), 11 PIO1_26/CT32B0_MAT2/RXD (io), 12 PIO1_27/CT32B0_MAT3/TXD (io), 13 PIO1_20/~{DSR}/SCK1 (io), 14 PIO0_3/USB_VBUS (io), 15 PIO0_4/SCL (io), 16 PIO0_5/SDA (io), 17 PIO0_21/CT16B1_MAT0/MOSI1 (io), 18 PIO1_23/CT16B1_MAT1/SSEL1 (io), 19 USB_DM (io), 20 USB_DP (io), 21 PIO1_24/CT32B0_MAT0 (io), 22 PIO0_6/~{USB_CONNECT}/SCK0 (io), 23 PIO0_7/~{CTS} (io), 24 PIO1_28/CT32B0_CAP0/SCLK (io), 25 PIO1_31 (io), 26 PIO1_21/~{DCD}/MISO1 (io), 27 PIO0_8/MISO0/CT16B0_MAT0 (io), 28 PIO0_9/MOSI0/CT16B0_MAT1/SWO (io), 29 SWCLK/PIO0_10/SCK0/CT16B0_MAT2 (io), 30 PIO0_22/AD6/CT16B1_MAT1/MISO1 (io), 31 PIO1_29/SCK0/CT32B0_CAP1 (io), 32 TDI/PIO0_11/AD0/CT32B0_MAT3 (io), 33 TMS/PIO0_12/AD1/CT32B1_CAP0 (io), 34 TDO/PIO0_13/AD2/CT32B1_MAT0 (io), 35 ~{TRST}/PIO0_14/AD3/CT32B1_MAT1 (io), 36 PIO1_13/~{DTR}/CT16B0_MAT0/TXD (io), 37 PIO1_14/~{DSR}/CT16B0_MAT1/RXD (io), 38 PIO1_22/~{RI}/MOSI1 (io), 39 SWDIO/PIO0_15/AD4/CT32B1_MAT2 (io), 40 PIO0_16/AD5/CT32B1_MAT3/WAKEUP (io), 41 VSS (power), 42 PIO0_23/AD7 (io), 43 PIO1_15/~{DCD}/CT16B0_MAT2/SCK1 (io), 44 VDD (power), 45 PIO0_17/~{RTS}/CT32B0_CAP0/SCLK (io), 46 PIO0_18/RXD/CT32B0_MAT0 (io), 47 PIO0_19/TXD/CT32B0_MAT1 (io), 48 PIO1_16/~{RI}/CT16B0_CAP0 (io)

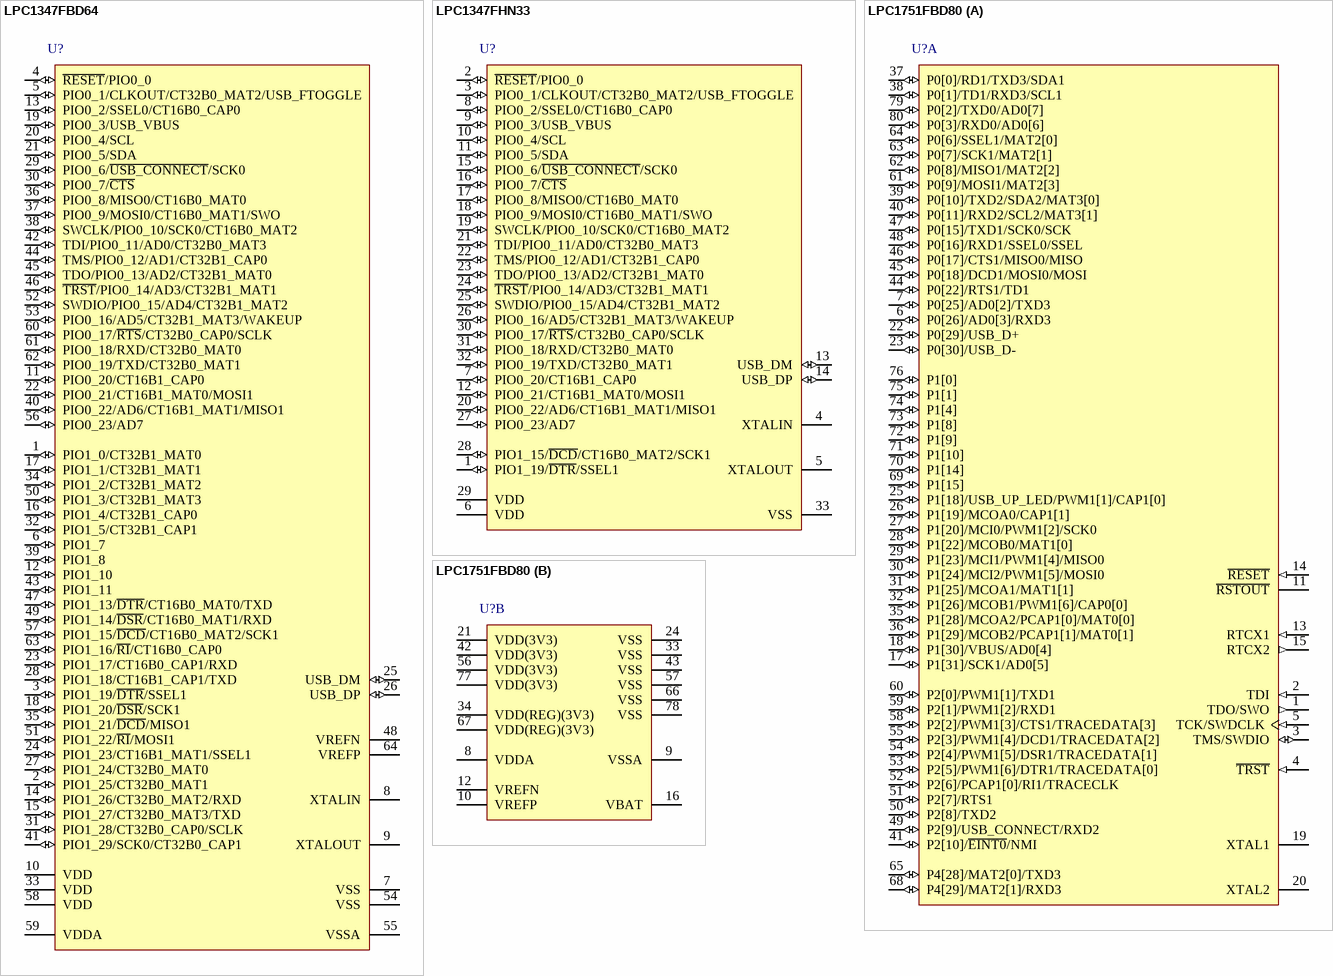
[diagram p4: symbols LPC1347FBD64 to LPC1751FBD80]